# Altium integrated library ST Microcontroller 8-Bit.IntLib: 1326 symbols (part 5 of 31)
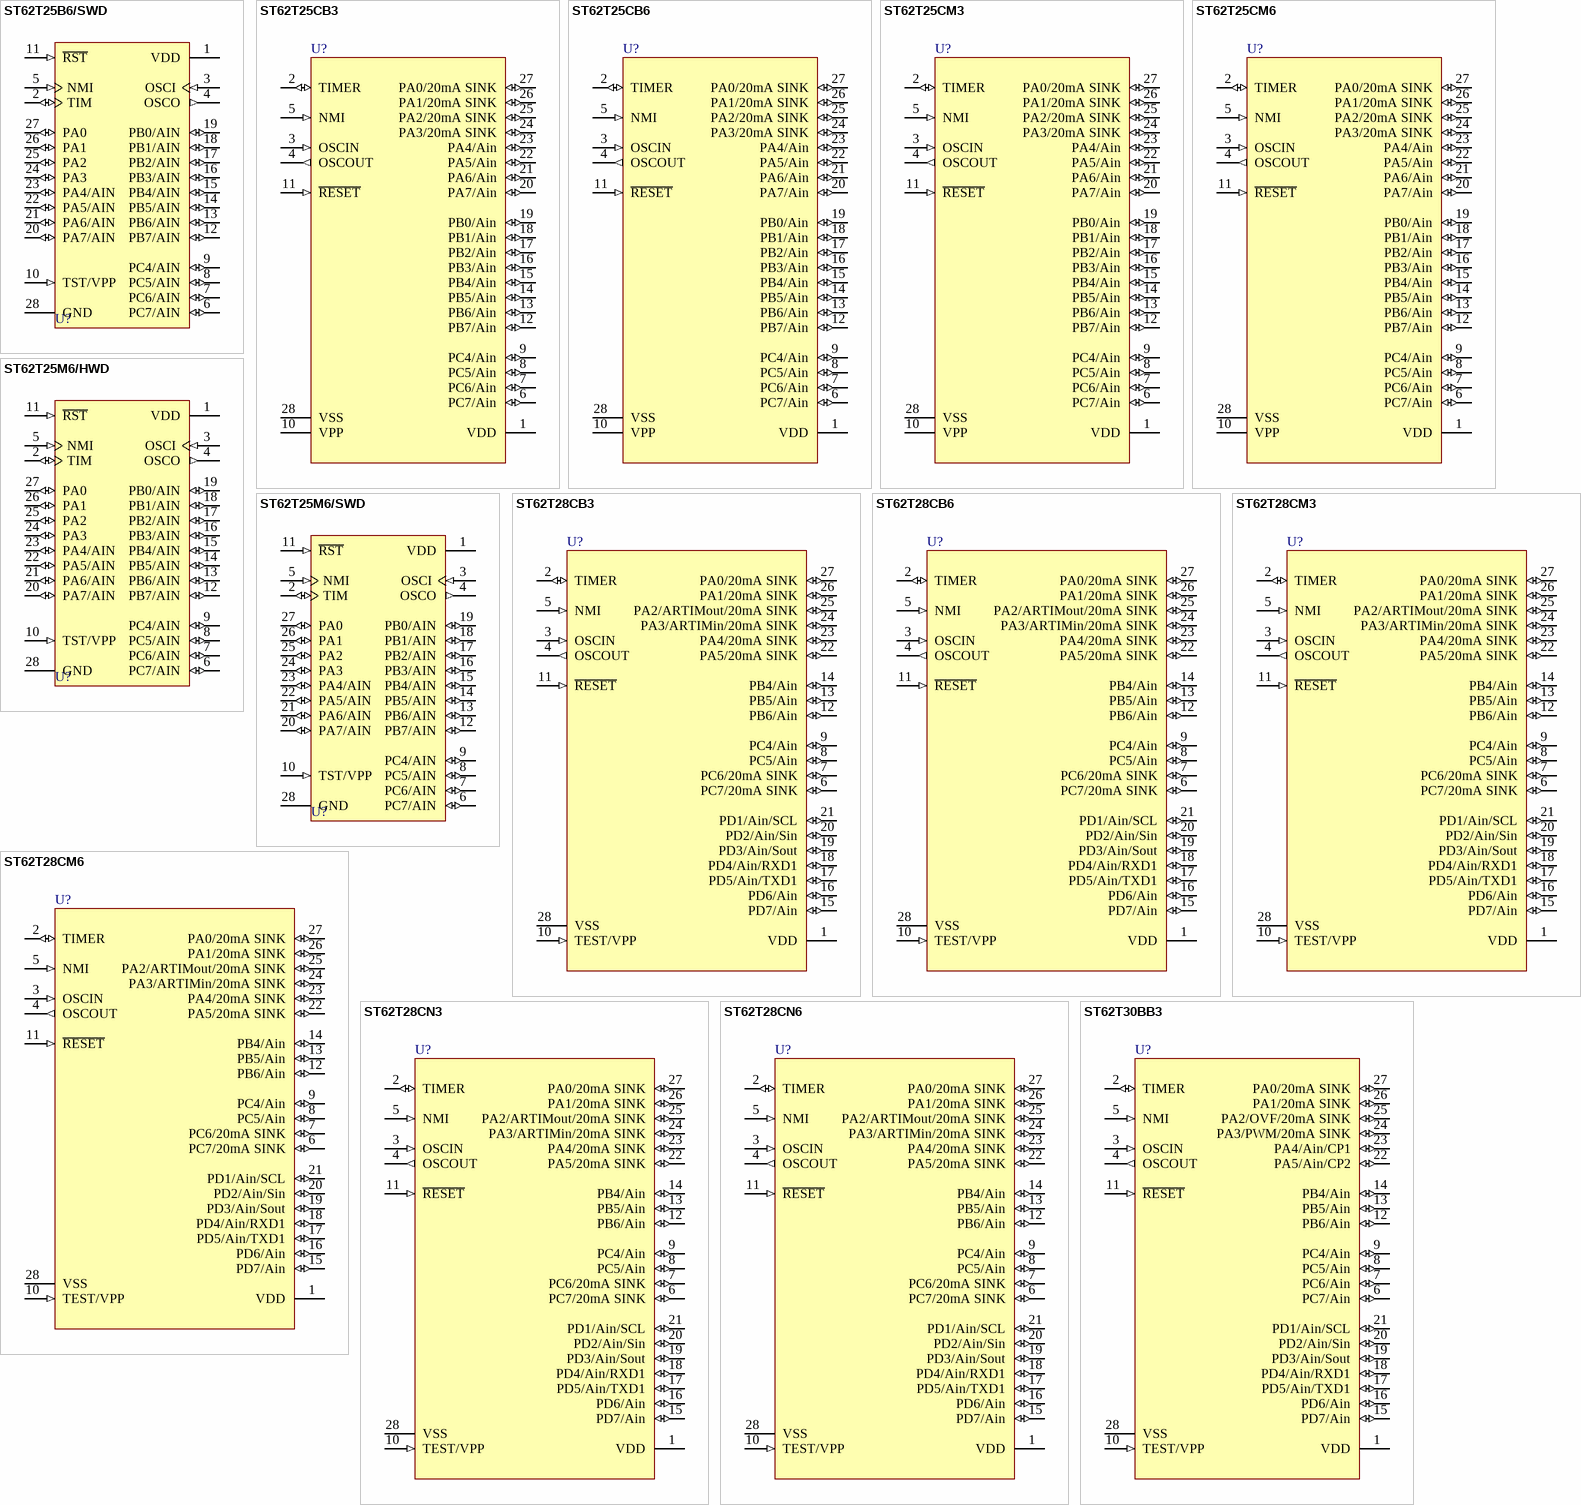
[diagram p171: symbols ST62T25B6/SWD to ST62T30BB3]

## ST62T25CB6
designator U?
8-Bit OTP MCU with A/D Converter, Two Timers, Oscillator Safeguard and Safe Reset, 28-Pin PDIP, Industrial; Published: 26-May-2004; DatasheetDocument: rev3.3, Oct-2003; PackageDocument: Oct-2003; PackageReference: DIP28; Publisher: Altium Limited; Code_JEDEC: MS-011-AB
footprint DIP28 (DIP; 28 Leads; Row Spacing 15.24 mm; Pitch 2.54 mm)
pins: 1 VDD (power), 2 TIMER (io), 3 OSCIN (in), 4 OSCOUT (out), 5 NMI (in), 6 PC7/Ain (io), 7 PC6/Ain (io), 8 PC5/Ain (io), 9 PC4/Ain (io), 10 VPP (power), 11 ~{RESET} (in), 12 PB7/Ain (io), 13 PB6/Ain (io), 14 PB5/Ain (io), 15 PB4/Ain (io), 16 PB3/Ain (io), 17 PB2/Ain (io), 18 PB1/Ain (io), 19 PB0/Ain (io), 20 PA7/Ain (io), 21 PA6/Ain (io), 22 PA5/Ain (io), 23 PA4/Ain (io), 24 PA3/20mA SINK (io), 25 PA2/20mA SINK (io), 26 PA1/20mA SINK (io), 27 PA0/20mA SINK (io), 28 VSS (power)

## ST62T25CM3
designator U?
8-Bit OTP MCU with A/D Converter, Two Timers, Oscillator Safeguard and Safe Reset, 28-Pin SOIC, Automotive; Published: 26-May-2004; DatasheetDocument: rev3.3, Oct-2003; PackageDocument: Jul-2001; PackageReference: SO28; Publisher: Altium Limited; Code_IPC: SO28W
footprint SO28 (Small Outline, Plastic; 28 Leads; Body Width 7.5 mm; Pitch 1.27 mm)
pins: 1 VDD (power), 2 TIMER (io), 3 OSCIN (in), 4 OSCOUT (out), 5 NMI (in), 6 PC7/Ain (io), 7 PC6/Ain (io), 8 PC5/Ain (io), 9 PC4/Ain (io), 10 VPP (power), 11 ~{RESET} (in), 12 PB7/Ain (io), 13 PB6/Ain (io), 14 PB5/Ain (io), 15 PB4/Ain (io), 16 PB3/Ain (io), 17 PB2/Ain (io), 18 PB1/Ain (io), 19 PB0/Ain (io), 20 PA7/Ain (io), 21 PA6/Ain (io), 22 PA5/Ain (io), 23 PA4/Ain (io), 24 PA3/20mA SINK (io), 25 PA2/20mA SINK (io), 26 PA1/20mA SINK (io), 27 PA0/20mA SINK (io), 28 VSS (power)

## ST62T25CM6
designator U?
8-Bit OTP MCU with A/D Converter, Two Timers, Oscillator Safeguard and Safe Reset, 28-Pin SOIC, Industrial; Published: 26-May-2004; DatasheetDocument: rev3.3, Oct-2003; PackageDocument: Jul-2001; PackageReference: SO28; Publisher: Altium Limited; Code_IPC: SO28W
footprint SO28 (Small Outline, Plastic; 28 Leads; Body Width 7.5 mm; Pitch 1.27 mm)
pins: 1 VDD (power), 2 TIMER (io), 3 OSCIN (in), 4 OSCOUT (out), 5 NMI (in), 6 PC7/Ain (io), 7 PC6/Ain (io), 8 PC5/Ain (io), 9 PC4/Ain (io), 10 VPP (power), 11 ~{RESET} (in), 12 PB7/Ain (io), 13 PB6/Ain (io), 14 PB5/Ain (io), 15 PB4/Ain (io), 16 PB3/Ain (io), 17 PB2/Ain (io), 18 PB1/Ain (io), 19 PB0/Ain (io), 20 PA7/Ain (io), 21 PA6/Ain (io), 22 PA5/Ain (io), 23 PA4/Ain (io), 24 PA3/20mA SINK (io), 25 PA2/20mA SINK (io), 26 PA1/20mA SINK (io), 27 PA0/20mA SINK (io), 28 VSS (power)

## ST62T25M6/HWD
designator U?
8-Bit OTP MCU with A/D Converter; Published: 24-Aug-2001; LatestRevisionDate: 17-Jul-2002; LatestRevisionNote: Re-released for DXP Platform.; DatasheetDocument: Oct-1996; PackageDocument: Jul-2001; PackageReference: SO28; Publisher: Altium Limited; Code_IPC: SO28W
footprint SO28 (Small Outline, Plastic; 28 Leads; Body Width 7.5 mm; Pitch 1.27 mm)
pins: 1 VDD (power), 2 TIM (io), 3 OSCI (in), 4 OSCO (out), 5 NMI (in), 6 PC7/AIN (io), 7 PC6/AIN (io), 8 PC5/AIN (io), 9 PC4/AIN (io), 10 TST/VPP (in), 11 ~{RST} (in), 12 PB7/AIN (io), 13 PB6/AIN (io), 14 PB5/AIN (io), 15 PB4/AIN (io), 16 PB3/AIN (io), 17 PB2/AIN (io), 18 PB1/AIN (io), 19 PB0/AIN (io), 20 PA7/AIN (io), 21 PA6/AIN (io), 22 PA5/AIN (io), 23 PA4/AIN (io), 24 PA3 (io), 25 PA2 (io), 26 PA1 (io), 27 PA0 (io), 28 GND (power)

## ST62T25M6/SWD
designator U?
8-Bit OTP MCU with A/D Converter; Published: 24-Aug-2001; LatestRevisionDate: 17-Jul-2002; LatestRevisionNote: Re-released for DXP Platform.; DatasheetDocument: Oct-1996; PackageDocument: Jul-2001; PackageReference: SO28; Publisher: Altium Limited; Code_IPC: SO28W
footprint SO28 (Small Outline, Plastic; 28 Leads; Body Width 7.5 mm; Pitch 1.27 mm)
pins: 1 VDD (power), 2 TIM (io), 3 OSCI (in), 4 OSCO (out), 5 NMI (in), 6 PC7/AIN (io), 7 PC6/AIN (io), 8 PC5/AIN (io), 9 PC4/AIN (io), 10 TST/VPP (in), 11 ~{RST} (in), 12 PB7/AIN (io), 13 PB6/AIN (io), 14 PB5/AIN (io), 15 PB4/AIN (io), 16 PB3/AIN (io), 17 PB2/AIN (io), 18 PB1/AIN (io), 19 PB0/AIN (io), 20 PA7/AIN (io), 21 PA6/AIN (io), 22 PA5/AIN (io), 23 PA4/AIN (io), 24 PA3 (io), 25 PA2 (io), 26 PA1 (io), 27 PA0 (io), 28 GND (power)

## ST62T28CB3
designator U?
8-Bit OTP MCU with A/D Converter, Auto-Reload Timer, UART, OSG, Safe Reset , 28-Pin PDIP, Automotive; Published: 26-May-2004; DatasheetDocument: rev2.9, Jul-2001; PackageDocument: Oct-2003; PackageReference: DIP28; Publisher: Altium Limited; Code_JEDEC: MS-011-AB
footprint DIP28 (DIP; 28 Leads; Row Spacing 15.24 mm; Pitch 2.54 mm)
pins: 1 VDD (power), 2 TIMER (io), 3 OSCIN (in), 4 OSCOUT (out), 5 NMI (in), 6 PC7/20mA SINK (io), 7 PC6/20mA SINK (io), 8 PC5/Ain (io), 9 PC4/Ain (io), 10 TEST/VPP (in), 11 ~{RESET} (in), 12 PB6/Ain (io), 13 PB5/Ain (io), 14 PB4/Ain (io), 15 PD7/Ain (io), 16 PD6/Ain (io), 17 PD5/Ain/TXD1 (io), 18 PD4/Ain/RXD1 (io), 19 PD3/Ain/Sout (io), 20 PD2/Ain/Sin (io), 21 PD1/Ain/SCL (io), 22 PA5/20mA SINK (io), 23 PA4/20mA SINK (io), 24 PA3/ARTIMin/20mA SINK (io), 25 PA2/ARTIMout/20mA SINK (io), 26 PA1/20mA SINK (io), 27 PA0/20mA SINK (io), 28 VSS (power)

## ST62T28CB6
designator U?
8-Bit OTP MCU with A/D Converter, Auto-Reload Timer, UART, OSG, Safe Reset , 28-Pin PDIP, Industrial; Published: 26-May-2004; DatasheetDocument: rev2.9, Jul-2001; PackageDocument: Oct-2003; PackageReference: DIP28; Publisher: Altium Limited; Code_JEDEC: MS-011-AB
footprint DIP28 (DIP; 28 Leads; Row Spacing 15.24 mm; Pitch 2.54 mm)
pins: 1 VDD (power), 2 TIMER (io), 3 OSCIN (in), 4 OSCOUT (out), 5 NMI (in), 6 PC7/20mA SINK (io), 7 PC6/20mA SINK (io), 8 PC5/Ain (io), 9 PC4/Ain (io), 10 TEST/VPP (in), 11 ~{RESET} (in), 12 PB6/Ain (io), 13 PB5/Ain (io), 14 PB4/Ain (io), 15 PD7/Ain (io), 16 PD6/Ain (io), 17 PD5/Ain/TXD1 (io), 18 PD4/Ain/RXD1 (io), 19 PD3/Ain/Sout (io), 20 PD2/Ain/Sin (io), 21 PD1/Ain/SCL (io), 22 PA5/20mA SINK (io), 23 PA4/20mA SINK (io), 24 PA3/ARTIMin/20mA SINK (io), 25 PA2/ARTIMout/20mA SINK (io), 26 PA1/20mA SINK (io), 27 PA0/20mA SINK (io), 28 VSS (power)

## ST62T28CM3
designator U?
8-Bit OTP MCU with A/D Converter, Auto-Reload Timer, UART, OSG, Safe Reset , 28-Pin SOIC, Automotive; Published: 26-May-2004; DatasheetDocument: rev2.9, Jul-2001; PackageDocument: Jul-2001; PackageReference: SO28; Publisher: Altium Limited; Code_IPC: SO28W
footprint SO28 (Small Outline, Plastic; 28 Leads; Body Width 7.5 mm; Pitch 1.27 mm)
pins: 1 VDD (power), 2 TIMER (io), 3 OSCIN (in), 4 OSCOUT (out), 5 NMI (in), 6 PC7/20mA SINK (io), 7 PC6/20mA SINK (io), 8 PC5/Ain (io), 9 PC4/Ain (io), 10 TEST/VPP (in), 11 ~{RESET} (in), 12 PB6/Ain (io), 13 PB5/Ain (io), 14 PB4/Ain (io), 15 PD7/Ain (io), 16 PD6/Ain (io), 17 PD5/Ain/TXD1 (io), 18 PD4/Ain/RXD1 (io), 19 PD3/Ain/Sout (io), 20 PD2/Ain/Sin (io), 21 PD1/Ain/SCL (io), 22 PA5/20mA SINK (io), 23 PA4/20mA SINK (io), 24 PA3/ARTIMin/20mA SINK (io), 25 PA2/ARTIMout/20mA SINK (io), 26 PA1/20mA SINK (io), 27 PA0/20mA SINK (io), 28 VSS (power)

## ST62T28CM6
designator U?
8-Bit OTP MCU with A/D Converter, Auto-Reload Timer, UART, OSG, Safe Reset , 28-Pin SOIC, Industrial; Published: 26-May-2004; DatasheetDocument: rev2.9, Jul-2001; PackageDocument: Jul-2001; PackageReference: SO28; Publisher: Altium Limited; Code_IPC: SO28W
footprint SO28 (Small Outline, Plastic; 28 Leads; Body Width 7.5 mm; Pitch 1.27 mm)
pins: 1 VDD (power), 2 TIMER (io), 3 OSCIN (in), 4 OSCOUT (out), 5 NMI (in), 6 PC7/20mA SINK (io), 7 PC6/20mA SINK (io), 8 PC5/Ain (io), 9 PC4/Ain (io), 10 TEST/VPP (in), 11 ~{RESET} (in), 12 PB6/Ain (io), 13 PB5/Ain (io), 14 PB4/Ain (io), 15 PD7/Ain (io), 16 PD6/Ain (io), 17 PD5/Ain/TXD1 (io), 18 PD4/Ain/RXD1 (io), 19 PD3/Ain/Sout (io), 20 PD2/Ain/Sin (io), 21 PD1/Ain/SCL (io), 22 PA5/20mA SINK (io), 23 PA4/20mA SINK (io), 24 PA3/ARTIMin/20mA SINK (io), 25 PA2/ARTIMout/20mA SINK (io), 26 PA1/20mA SINK (io), 27 PA0/20mA SINK (io), 28 VSS (power)

## ST62T28CN3
designator U?
8-Bit OTP MCU with A/D Converter, Auto-Reload Timer, UART, OSG, Safe Reset , 28-Pin SSOP, Automotive; Published: 26-May-2004; DatasheetDocument: rev2.9, Jul-2001; PackageDocument: Jul-2001; PackageReference: SSOP28W; Publisher: Altium Limited
footprint SSOP28W (SSOP, Plastic; 28 Leads; Body Width 5.3 mm; Pitch 0.65 mm)
pins: 1 VDD (power), 2 TIMER (io), 3 OSCIN (in), 4 OSCOUT (out), 5 NMI (in), 6 PC7/20mA SINK (io), 7 PC6/20mA SINK (io), 8 PC5/Ain (io), 9 PC4/Ain (io), 10 TEST/VPP (in), 11 ~{RESET} (in), 12 PB6/Ain (io), 13 PB5/Ain (io), 14 PB4/Ain (io), 15 PD7/Ain (io), 16 PD6/Ain (io), 17 PD5/Ain/TXD1 (io), 18 PD4/Ain/RXD1 (io), 19 PD3/Ain/Sout (io), 20 PD2/Ain/Sin (io), 21 PD1/Ain/SCL (io), 22 PA5/20mA SINK (io), 23 PA4/20mA SINK (io), 24 PA3/ARTIMin/20mA SINK (io), 25 PA2/ARTIMout/20mA SINK (io), 26 PA1/20mA SINK (io), 27 PA0/20mA SINK (io), 28 VSS (power)

## ST62T28CN6
designator U?
8-Bit OTP MCU with A/D Converter, Auto-Reload Timer, UART, OSG, Safe Reset , 28-Pin SSOP, Industrial; Published: 26-May-2004; DatasheetDocument: rev2.9, Jul-2001; PackageDocument: Jul-2001; PackageReference: SSOP28W; Publisher: Altium Limited
footprint SSOP28W (SSOP, Plastic; 28 Leads; Body Width 5.3 mm; Pitch 0.65 mm)
pins: 1 VDD (power), 2 TIMER (io), 3 OSCIN (in), 4 OSCOUT (out), 5 NMI (in), 6 PC7/20mA SINK (io), 7 PC6/20mA SINK (io), 8 PC5/Ain (io), 9 PC4/Ain (io), 10 TEST/VPP (in), 11 ~{RESET} (in), 12 PB6/Ain (io), 13 PB5/Ain (io), 14 PB4/Ain (io), 15 PD7/Ain (io), 16 PD6/Ain (io), 17 PD5/Ain/TXD1 (io), 18 PD4/Ain/RXD1 (io), 19 PD3/Ain/Sout (io), 20 PD2/Ain/Sin (io), 21 PD1/Ain/SCL (io), 22 PA5/20mA SINK (io), 23 PA4/20mA SINK (io), 24 PA3/ARTIMin/20mA SINK (io), 25 PA2/ARTIMout/20mA SINK (io), 26 PA1/20mA SINK (io), 27 PA0/20mA SINK (io), 28 VSS (power)

## ST62T30BB3
designator U?
8-Bit OTP MCU with A/D Converter, 16-Bit Auto-Reload Timer, EEPROM, SPI and UART, 28-Pin PDIP, Automotive; Published: 26-May-2004; DatasheetDocument: rev2.7, Oct-2003; PackageDocument: Oct-2003; PackageReference: DIP28; Publisher: Altium Limited; Code_JEDEC: MS-011-AB
footprint DIP28 (DIP; 28 Leads; Row Spacing 15.24 mm; Pitch 2.54 mm)
pins: 1 VDD (power), 2 TIMER (io), 3 OSCIN (in), 4 OSCOUT (out), 5 NMI (in), 6 PC7/Ain (io), 7 PC6/Ain (io), 8 PC5/Ain (io), 9 PC4/Ain (io), 10 TEST/VPP (in), 11 ~{RESET} (in), 12 PB6/Ain (io), 13 PB5/Ain (io), 14 PB4/Ain (io), 15 PD7/Ain (io), 16 PD6/Ain (io), 17 PD5/Ain/TXD1 (io), 18 PD4/Ain/RXD1 (io), 19 PD3/Ain/Sout (io), 20 PD2/Ain/Sin (io), 21 PD1/Ain/SCL (io), 22 PA5/Ain/CP2 (io), 23 PA4/Ain/CP1 (io), 24 PA3/PWM/20mA SINK (io), 25 PA2/OVF/20mA SINK (io), 26 PA1/20mA SINK (io), 27 PA0/20mA SINK (io), 28 VSS (power)

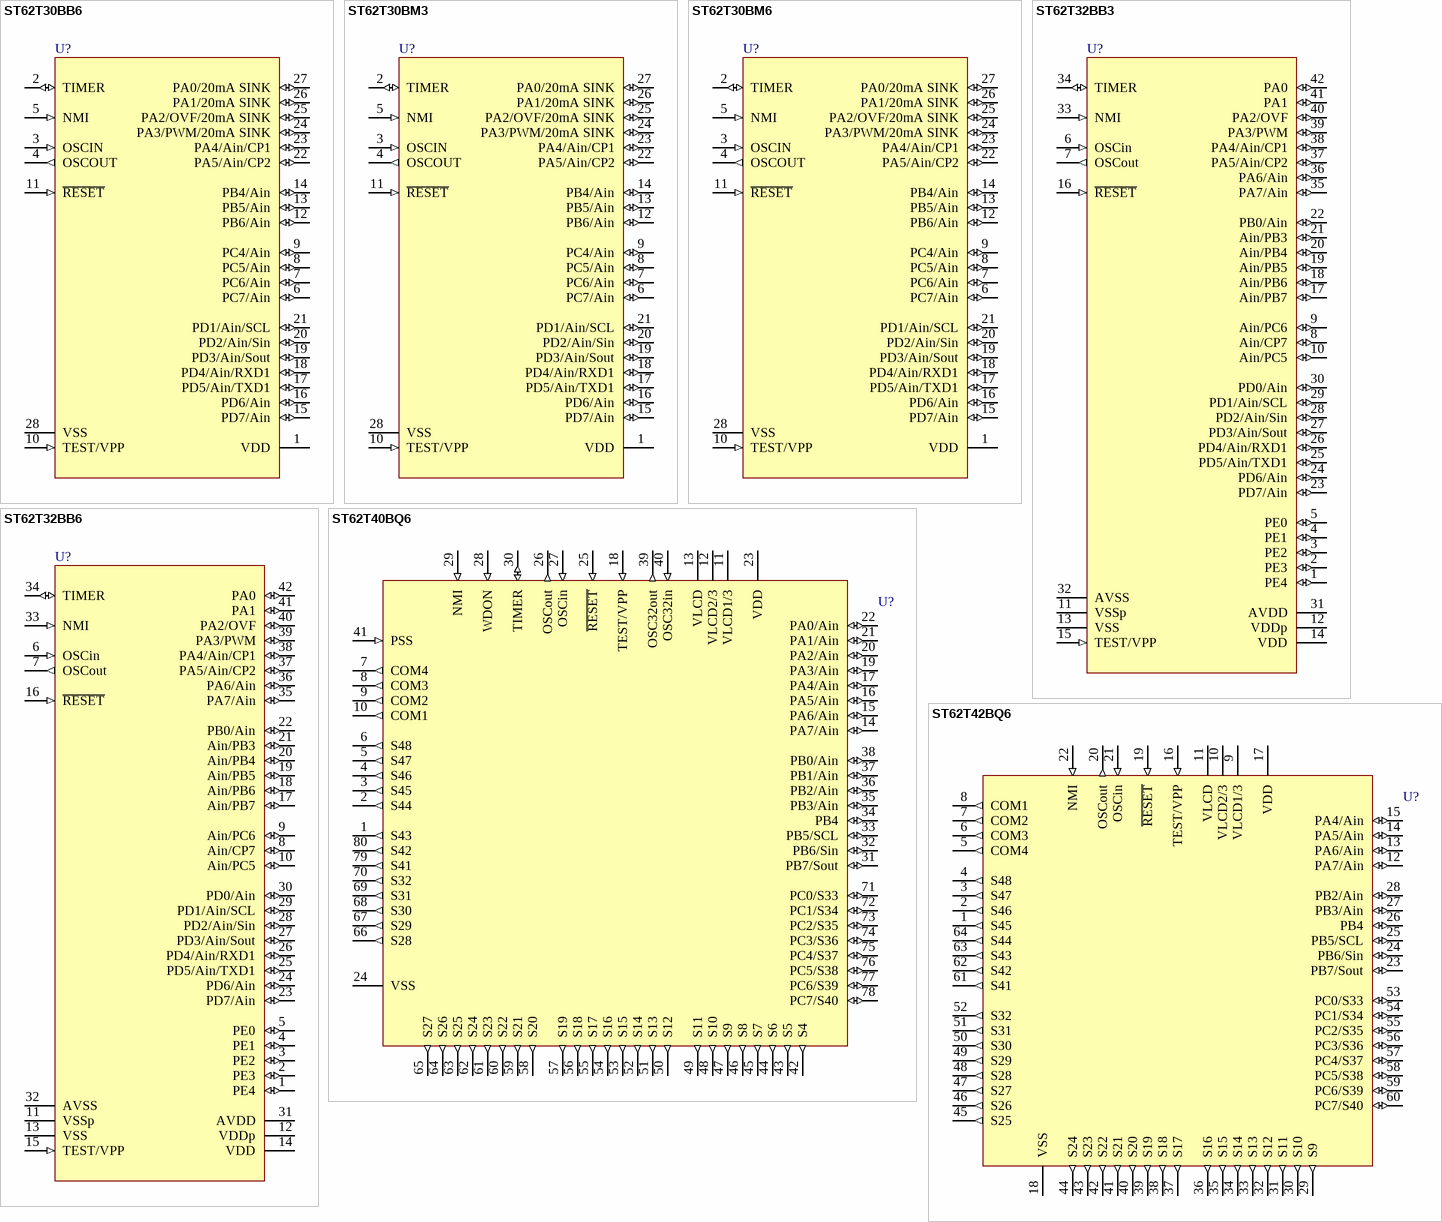
[diagram p17: symbols ST62T30BB6 to ST62T42BQ6]

## ST62T30BB6
designator U?
8-Bit OTP MCU with A/D Converter, 16-Bit Auto-Reload Timer, EEPROM, SPI and UART, 28-Pin PDIP, Industrial; Published: 26-May-2004; DatasheetDocument: rev2.7, Oct-2003; PackageDocument: Oct-2003; PackageReference: DIP28; Publisher: Altium Limited; Code_JEDEC: MS-011-AB
footprint DIP28 (DIP; 28 Leads; Row Spacing 15.24 mm; Pitch 2.54 mm)
pins: 1 VDD (power), 2 TIMER (io), 3 OSCIN (in), 4 OSCOUT (out), 5 NMI (in), 6 PC7/Ain (io), 7 PC6/Ain (io), 8 PC5/Ain (io), 9 PC4/Ain (io), 10 TEST/VPP (in), 11 ~{RESET} (in), 12 PB6/Ain (io), 13 PB5/Ain (io), 14 PB4/Ain (io), 15 PD7/Ain (io), 16 PD6/Ain (io), 17 PD5/Ain/TXD1 (io), 18 PD4/Ain/RXD1 (io), 19 PD3/Ain/Sout (io), 20 PD2/Ain/Sin (io), 21 PD1/Ain/SCL (io), 22 PA5/Ain/CP2 (io), 23 PA4/Ain/CP1 (io), 24 PA3/PWM/20mA SINK (io), 25 PA2/OVF/20mA SINK (io), 26 PA1/20mA SINK (io), 27 PA0/20mA SINK (io), 28 VSS (power)

## ST62T30BM3
designator U?
8-Bit OTP MCU with A/D Converter, 16-Bit Auto-Reload Timer, EEPROM, SPI and UART, 28-Pin SOIC, Automotive; Published: 26-May-2004; DatasheetDocument: rev2.7, Oct-2003; PackageDocument: Jul-2001; PackageReference: SO28; Publisher: Altium Limited; Code_IPC: SO28W
footprint SO28 (Small Outline, Plastic; 28 Leads; Body Width 7.5 mm; Pitch 1.27 mm)
pins: 1 VDD (power), 2 TIMER (io), 3 OSCIN (in), 4 OSCOUT (out), 5 NMI (in), 6 PC7/Ain (io), 7 PC6/Ain (io), 8 PC5/Ain (io), 9 PC4/Ain (io), 10 TEST/VPP (in), 11 ~{RESET} (in), 12 PB6/Ain (io), 13 PB5/Ain (io), 14 PB4/Ain (io), 15 PD7/Ain (io), 16 PD6/Ain (io), 17 PD5/Ain/TXD1 (io), 18 PD4/Ain/RXD1 (io), 19 PD3/Ain/Sout (io), 20 PD2/Ain/Sin (io), 21 PD1/Ain/SCL (io), 22 PA5/Ain/CP2 (io), 23 PA4/Ain/CP1 (io), 24 PA3/PWM/20mA SINK (io), 25 PA2/OVF/20mA SINK (io), 26 PA1/20mA SINK (io), 27 PA0/20mA SINK (io), 28 VSS (power)

## ST62T30BM6
designator U?
8-Bit OTP MCU with A/D Converter, 16-Bit Auto-Reload Timer, EEPROM, SPI and UART, 28-Pin SOIC, Industrial; Published: 26-May-2004; DatasheetDocument: rev2.7, Oct-2003; PackageDocument: Jul-2001; PackageReference: SO28; Publisher: Altium Limited; Code_IPC: SO28W
footprint SO28 (Small Outline, Plastic; 28 Leads; Body Width 7.5 mm; Pitch 1.27 mm)
pins: 1 VDD (power), 2 TIMER (io), 3 OSCIN (in), 4 OSCOUT (out), 5 NMI (in), 6 PC7/Ain (io), 7 PC6/Ain (io), 8 PC5/Ain (io), 9 PC4/Ain (io), 10 TEST/VPP (in), 11 ~{RESET} (in), 12 PB6/Ain (io), 13 PB5/Ain (io), 14 PB4/Ain (io), 15 PD7/Ain (io), 16 PD6/Ain (io), 17 PD5/Ain/TXD1 (io), 18 PD4/Ain/RXD1 (io), 19 PD3/Ain/Sout (io), 20 PD2/Ain/Sin (io), 21 PD1/Ain/SCL (io), 22 PA5/Ain/CP2 (io), 23 PA4/Ain/CP1 (io), 24 PA3/PWM/20mA SINK (io), 25 PA2/OVF/20mA SINK (io), 26 PA1/20mA SINK (io), 27 PA0/20mA SINK (io), 28 VSS (power)

## ST62T32BB3
designator U?
8-Bit OTP MCU with A/D Converter, 16-Bit Auto-Reload Timer, EEPROM, SPI and UART, 42-Pin SDIP, Automotive; Published: 26-May-2004; DatasheetDocument: rev2.8, Oct-2003; PackageDocument: Oct-2003; PackageReference: PSDIP42; Publisher: Altium Limited
footprint PSDIP42 (DIP, Plastic Shrink; 42 Leads; Row Spacing 15.24 mm; Pitch 1.78 mm)
pins: 1 PE4 (io), 2 PE3 (io), 3 PE2 (io), 4 PE1 (io), 5 PE0 (io), 6 OSCin (in), 7 OSCout (out), 8 Ain/CP7 (io), 9 Ain/PC6 (io), 10 Ain/PC5 (io), 11 VSSp (power), 12 VDDp (power), 13 VSS (power), 14 VDD (power), 15 TEST/VPP (in), 16 ~{RESET} (in), 17 Ain/PB7 (io), 18 Ain/PB6 (io), 19 Ain/PB5 (io), 20 Ain/PB4 (io), 21 Ain/PB3 (io), 22 PB0/Ain (io), 23 PD7/Ain (io), 24 PD6/Ain (io), 25 PD5/Ain/TXD1 (io), 26 PD4/Ain/RXD1 (io), 27 PD3/Ain/Sout (io), 28 PD2/Ain/Sin (io), 29 PD1/Ain/SCL (io), 30 PD0/Ain (io), 31 AVDD (power), 32 AVSS (power), 33 NMI (in), 34 TIMER (io), 35 PA7/Ain (io), 36 PA6/Ain (io), 37 PA5/Ain/CP2 (io), 38 PA4/Ain/CP1 (io), 39 PA3/PWM (io), 40 PA2/OVF (io), 41 PA1 (io), 42 PA0 (io)

## ST62T32BB6
designator U?
8-Bit OTP MCU with A/D Converter, 16-Bit Auto-Reload Timer, EEPROM, SPI and UART, 42-Pin SDIP, Industrial; Published: 26-May-2004; DatasheetDocument: rev2.8, Oct-2003; PackageDocument: Oct-2003; PackageReference: PSDIP42; Publisher: Altium Limited
footprint PSDIP42 (DIP, Plastic Shrink; 42 Leads; Row Spacing 15.24 mm; Pitch 1.78 mm)
pins: 1 PE4 (io), 2 PE3 (io), 3 PE2 (io), 4 PE1 (io), 5 PE0 (io), 6 OSCin (in), 7 OSCout (out), 8 Ain/CP7 (io), 9 Ain/PC6 (io), 10 Ain/PC5 (io), 11 VSSp (power), 12 VDDp (power), 13 VSS (power), 14 VDD (power), 15 TEST/VPP (in), 16 ~{RESET} (in), 17 Ain/PB7 (io), 18 Ain/PB6 (io), 19 Ain/PB5 (io), 20 Ain/PB4 (io), 21 Ain/PB3 (io), 22 PB0/Ain (io), 23 PD7/Ain (io), 24 PD6/Ain (io), 25 PD5/Ain/TXD1 (io), 26 PD4/Ain/RXD1 (io), 27 PD3/Ain/Sout (io), 28 PD2/Ain/Sin (io), 29 PD1/Ain/SCL (io), 30 PD0/Ain (io), 31 AVDD (power), 32 AVSS (power), 33 NMI (in), 34 TIMER (io), 35 PA7/Ain (io), 36 PA6/Ain (io), 37 PA5/Ain/CP2 (io), 38 PA4/Ain/CP1 (io), 39 PA3/PWM (io), 40 PA2/OVF (io), 41 PA1 (io), 42 PA0 (io)

## ST62T40BQ6
designator U?
8-Bit OTP MCU with LCD Driver, EEPROM and A/D Converter, 80-Pin PQFP, Industrial; Note: Pins 31 to 34 can also sink 20mA for direct LED or TRIAC drive.; Published: 26-May-2004; DatasheetDocument: rev2.7, Jul-2001; PackageDocument: Jul-2001; PackageReference: PQFP80; Publisher: Altium Limited; Code_IPC: QFP-14X20-80
footprint PQFP80 (QFP, Plastic; 80 Leads; Body 14 x 20 mm; Pitch 0.8 mm)
pins: 1 S43 (out), 2 S44 (out), 3 S45 (out), 4 S46 (out), 5 S47 (out), 6 S48 (out), 7 COM4 (out), 8 COM3 (out), 9 COM2 (out), 10 COM1 (out), 11 VLCD1/3 (power), 12 VLCD2/3 (power), 13 VLCD (power), 14 PA7/Ain (io), 15 PA6/Ain (io), 16 PA5/Ain (io), 17 PA4/Ain (io), 18 TEST/VPP (in), 19 PA3/Ain (io), 20 PA2/Ain (io), 21 PA1/Ain (io), 22 PA0/Ain (io), 23 VDD (power), 24 VSS (power), 25 ~{RESET} (in), 26 OSCout (out), 27 OSCin (in), 28 WDON (in), 29 NMI (in), 30 TIMER (io), 31 PB7/Sout (io), 32 PB6/Sin (io), 33 PB5/SCL (io), 34 PB4 (io), 35 PB3/Ain (io), 36 PB2/Ain (io), 37 PB1/Ain (io), 38 PB0/Ain (io), 39 OSC32out (out), 40 OSC32in (in), 41 PSS (in), 42 S4 (out), 43 S5 (out), 44 S6 (out), 45 S7 (out), 46 S8 (out), 47 S9 (out), 48 S10 (out), 49 S11 (out), 50 S12 (out), 51 S13 (out), 52 S14 (out), 53 S15 (out), 54 S16 (out), 55 S17 (out), 56 S18 (out), 57 S19 (out), 58 S20 (out), 59 S21 (out), 60 S22 (out), 61 S23 (out), 62 S24 (out), 63 S25 (out), 64 S26 (out), 65 S27 (out), 66 S28 (out), 67 S29 (out), 68 S30 (out), 69 S31 (out), 70 S32 (out), 71 PC0/S33 (io), 72 PC1/S34 (io), 73 PC2/S35 (io), 74 PC3/S36 (io), 75 PC4/S37 (io), 76 PC5/S38 (io), 77 PC6/S39 (io), 78 PC7/S40 (io), 79 S41 (out), 80 S42 (out)

## ST62T42BQ6
designator U?
8-Bit OTP MCU with LCD Driver, EEPROM and A/D Converter, 64-Pin PQFP, Industrial; Note: Pins 23 to 26 can also sink 20mA for direct LED or TRIAC drive.; Published: 26-May-2004; DatasheetDocument: rev2.7, Jul-2001; PackageDocument: Jul-2001; PackageReference: PQFP64; Publisher: Altium Limited
footprint PQFP64 (QFP, Plastic; 64 Leads; Body 14 x 14 mm; Pitch 0.8 mm)
pins: 1 S45 (out), 2 S46 (out), 3 S47 (out), 4 S48 (out), 5 COM4 (out), 6 COM3 (out), 7 COM2 (out), 8 COM1 (out), 9 VLCD1/3 (power), 10 VLCD2/3 (power), 11 VLCD (power), 12 PA7/Ain (io), 13 PA6/Ain (io), 14 PA5/Ain (io), 15 PA4/Ain (io), 16 TEST/VPP (in), 17 VDD (power), 18 VSS (power), 19 ~{RESET} (in), 20 OSCout (out), 21 OSCin (in), 22 NMI (in), 23 PB7/Sout (io), 24 PB6/Sin (io), 25 PB5/SCL (io), 26 PB4 (io), 27 PB3/Ain (io), 28 PB2/Ain (io), 29 S9 (out), 30 S10 (out), 31 S11 (out), 32 S12 (out), 33 S13 (out), 34 S14 (out), 35 S15 (out), 36 S16 (out), 37 S17 (out), 38 S18 (out), 39 S19 (out), 40 S20 (out), 41 S21 (out), 42 S22 (out), 43 S23 (out), 44 S24 (out), 45 S25 (out), 46 S26 (out), 47 S27 (out), 48 S28 (out), 49 S29 (out), 50 S30 (out), 51 S31 (out), 52 S32 (out), 53 PC0/S33 (io), 54 PC1/S34 (io), 55 PC2/S35 (io), 56 PC3/S36 (io), 57 PC4/S37 (io), 58 PC5/S38 (io), 59 PC6/S39 (io), 60 PC7/S40 (io), 61 S41 (out), 62 S42 (out), 63 S43 (out), 64 S44 (out)

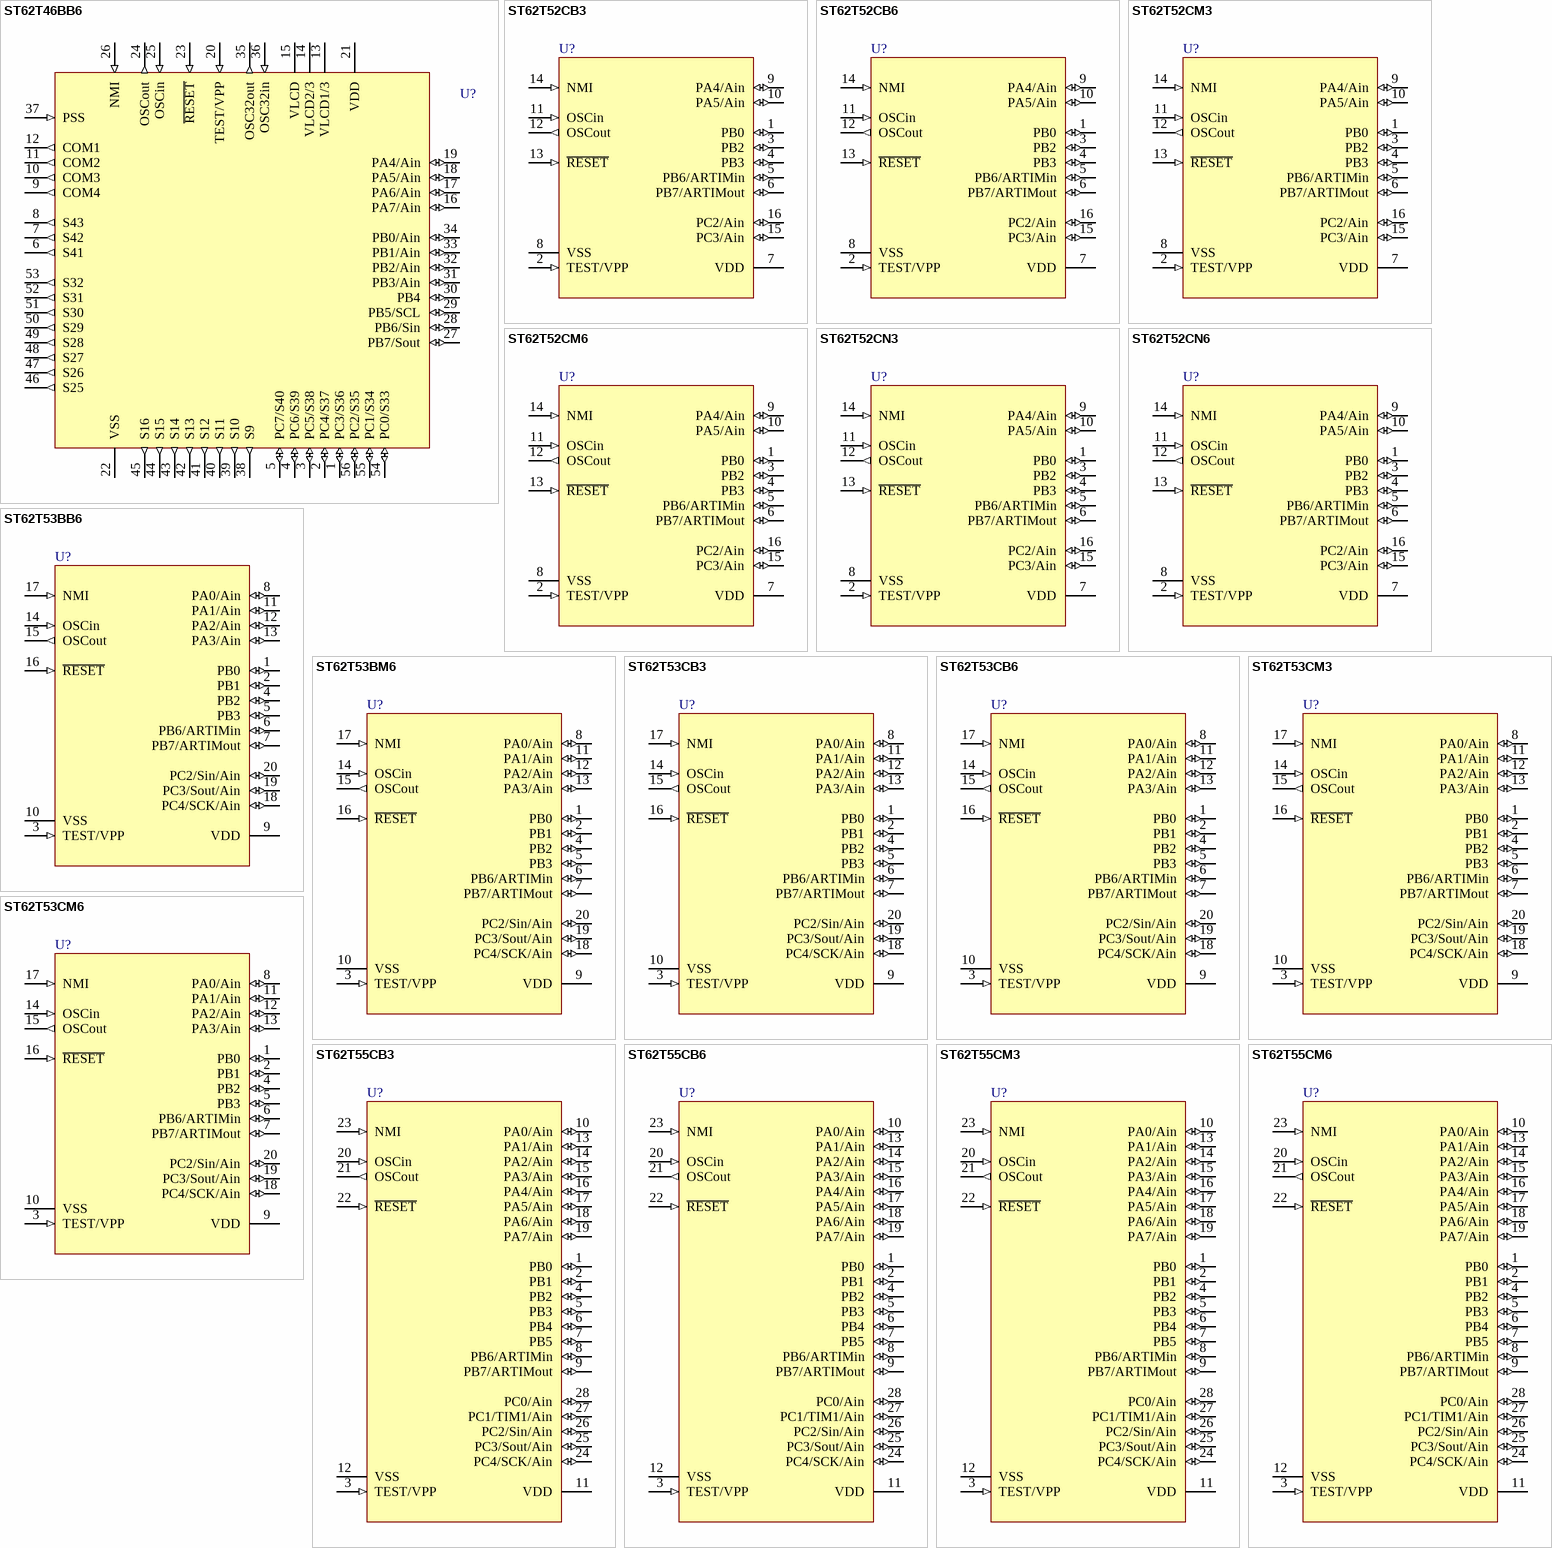
[diagram p18: symbols ST62T46BB6 to ST62T55CM6]

## ST62T46BB6
designator U?
8-Bit OTP MCU with LCD Driver, EEPROM and A/D Converter, 56-Pin PDIP, Industrial; Note: Pins 27 to 30 can also sink 20mA for direct LED or TRIAC drive.; Published: 26-May-2004; DatasheetDocument: rev2.6, Jul-2001; PackageDocument: Jan-2002; PackageReference: PSDIP56; Publisher: Altium Limited
footprint PSDIP56 (DIP, Plastic Shrink; 56 Leads; Row Spacing 15.24 mm; Pitch 1.78 mm)
pins: 1 PC3/S36 (io), 2 PC4/S37 (io), 3 PC5/S38 (io), 4 PC6/S39 (io), 5 PC7/S40 (io), 6 S41 (out), 7 S42 (out), 8 S43 (out), 9 COM4 (out), 10 COM3 (out), 11 COM2 (out), 12 COM1 (out), 13 VLCD1/3 (power), 14 VLCD2/3 (power), 15 VLCD (power), 16 PA7/Ain (io), 17 PA6/Ain (io), 18 PA5/Ain (io), 19 PA4/Ain (io), 20 TEST/VPP (in), 21 VDD (power), 22 VSS (power), 23 ~{RESET} (in), 24 OSCout (out), 25 OSCin (in), 26 NMI (in), 27 PB7/Sout (io), 28 PB6/Sin (io), 29 PB5/SCL (io), 30 PB4 (io), 31 PB3/Ain (io), 32 PB2/Ain (io), 33 PB1/Ain (io), 34 PB0/Ain (io), 35 OSC32out (out), 36 OSC32in (in), 37 PSS (in), 38 S9 (out), 39 S10 (out), 40 S11 (out), 41 S12 (out), 42 S13 (out), 43 S14 (out), 44 S15 (out), 45 S16 (out), 46 S25 (out), 47 S26 (out), 48 S27 (out), 49 S28 (out), 50 S29 (out), 51 S30 (out), 52 S31 (out), 53 S32 (out), 54 PC0/S33 (io), 55 PC1/S34 (io), 56 PC2/S35 (io)

## ST62T52CB3
designator U?
8-Bit OTP MCU with A/D Converter, Safe Reset, Auto-Reload Timer and EEPROM, 16-Pin PDIP, Automotive; Note: Pins 3 to 5 can also sink 20mA for direct LED or TRIAC drive.; Published: 26-May-2004; DatasheetDocument: rev3.0, Feb-2002; PackageDocument: Dec-2003; PackageReference: PDIP16; Publisher: Altium Limited
footprint PDIP16 (DIP; 16 Leads; Row Spacing 7.62 mm; Pitch 2.54 mm)
pins: 1 PB0 (io), 2 TEST/VPP (in), 3 PB2 (io), 4 PB3 (io), 5 PB6/ARTIMin (io), 6 PB7/ARTIMout (io), 7 VDD (power), 8 VSS (power), 9 PA4/Ain (io), 10 PA5/Ain (io), 11 OSCin (in), 12 OSCout (out), 13 ~{RESET} (in), 14 NMI (in), 15 PC3/Ain (io), 16 PC2/Ain (io)

## ST62T52CB6
designator U?
8-Bit OTP MCU with A/D Converter, Safe Reset, Auto-Reload Timer and EEPROM, 16-Pin PDIP, Industrial; Note: Pins 3 to 5 can also sink 20mA for direct LED or TRIAC drive.; Published: 26-May-2004; DatasheetDocument: rev3.0, Feb-2002; PackageDocument: Dec-2003; PackageReference: PDIP16; Publisher: Altium Limited
footprint PDIP16 (DIP; 16 Leads; Row Spacing 7.62 mm; Pitch 2.54 mm)
pins: 1 PB0 (io), 2 TEST/VPP (in), 3 PB2 (io), 4 PB3 (io), 5 PB6/ARTIMin (io), 6 PB7/ARTIMout (io), 7 VDD (power), 8 VSS (power), 9 PA4/Ain (io), 10 PA5/Ain (io), 11 OSCin (in), 12 OSCout (out), 13 ~{RESET} (in), 14 NMI (in), 15 PC3/Ain (io), 16 PC2/Ain (io)

## ST62T52CM3
designator U?
8-Bit OTP MCU with A/D Converter, Safe Reset, Auto-Reload Timer and EEPROM, 16-Pin SOIC, Automotive; Note: Pins 3 to 5 can also sink 20mA for direct LED or TRIAC drive.; Published: 26-May-2004; DatasheetDocument: rev3.0, Feb-2002; PackageDocument: Apr-1998; PackageReference: SO16W; Publisher: Altium Limited; Code_JEDEC: MS-013-AA; Code_IPC: SO16W
footprint SO16W (Small Outline; 16 Leads; Body Width 7.5 mm; Pitch 1.27 mm)
pins: 1 PB0 (io), 2 TEST/VPP (in), 3 PB2 (io), 4 PB3 (io), 5 PB6/ARTIMin (io), 6 PB7/ARTIMout (io), 7 VDD (power), 8 VSS (power), 9 PA4/Ain (io), 10 PA5/Ain (io), 11 OSCin (in), 12 OSCout (out), 13 ~{RESET} (in), 14 NMI (in), 15 PC3/Ain (io), 16 PC2/Ain (io)

## ST62T52CM6
designator U?
8-Bit OTP MCU with A/D Converter, Safe Reset, Auto-Reload Timer and EEPROM, 16-Pin SOIC, Industrial; Note: Pins 3 to 5 can also sink 20mA for direct LED or TRIAC drive.; Published: 26-May-2004; DatasheetDocument: rev3.0, Feb-2002; PackageDocument: Apr-1998; PackageReference: SO16W; Publisher: Altium Limited; Code_JEDEC: MS-013-AA; Code_IPC: SO16W
footprint SO16W (Small Outline; 16 Leads; Body Width 7.5 mm; Pitch 1.27 mm)
pins: 1 PB0 (io), 2 TEST/VPP (in), 3 PB2 (io), 4 PB3 (io), 5 PB6/ARTIMin (io), 6 PB7/ARTIMout (io), 7 VDD (power), 8 VSS (power), 9 PA4/Ain (io), 10 PA5/Ain (io), 11 OSCin (in), 12 OSCout (out), 13 ~{RESET} (in), 14 NMI (in), 15 PC3/Ain (io), 16 PC2/Ain (io)

## ST62T52CN3
designator U?
8-Bit OTP MCU with A/D Converter, Safe Reset, Auto-Reload Timer and EEPROM, 16-Pin SSOP, Automotive; Note: Pins 3 to 5 can also sink 20mA for direct LED or TRIAC drive.; Published: 26-May-2004; DatasheetDocument: rev3.0, Feb-2002; PackageDocument: Oct-2003; PackageReference: SSOP16; Publisher: Altium Limited
footprint SSOP16 (SSOP, Plastic; 16 Leads; Body Width 5.3 mm; Pitch 0.65 mm)
pins: 1 PB0 (io), 2 TEST/VPP (in), 3 PB2 (io), 4 PB3 (io), 5 PB6/ARTIMin (io), 6 PB7/ARTIMout (io), 7 VDD (power), 8 VSS (power), 9 PA4/Ain (io), 10 PA5/Ain (io), 11 OSCin (in), 12 OSCout (out), 13 ~{RESET} (in), 14 NMI (in), 15 PC3/Ain (io), 16 PC2/Ain (io)

## ST62T52CN6
designator U?
8-Bit OTP MCU with A/D Converter, Safe Reset, Auto-Reload Timer and EEPROM, 16-Pin SSOP, Industrial; Note: Pins 3 to 5 can also sink 20mA for direct LED or TRIAC drive.; Published: 26-May-2004; DatasheetDocument: rev3.0, Feb-2002; PackageDocument: Oct-2003; PackageReference: SSOP16; Publisher: Altium Limited
footprint SSOP16 (SSOP, Plastic; 16 Leads; Body Width 5.3 mm; Pitch 0.65 mm)
pins: 1 PB0 (io), 2 TEST/VPP (in), 3 PB2 (io), 4 PB3 (io), 5 PB6/ARTIMin (io), 6 PB7/ARTIMout (io), 7 VDD (power), 8 VSS (power), 9 PA4/Ain (io), 10 PA5/Ain (io), 11 OSCin (in), 12 OSCout (out), 13 ~{RESET} (in), 14 NMI (in), 15 PC3/Ain (io), 16 PC2/Ain (io)

## ST62T53BB6
designator U?
8-Bit OTP MCU with A/D Converter, Auto-Reload Timer, EEPROM and SPI; Published: 24-Aug-2001; LatestRevisionDate: 19-Mar-2004; LatestRevisionNote: PCB Footprint - Drill diameter increased by 0.1mm; DatasheetDocument: Apr-1998; PackageDocument: Jun-1998; PackageReference: DIP20; Publisher: Altium Limited; Code_JEDEC: MS-015-AE
footprint DIP20 (DIP; 20 Leads; Row Spacing 7.62 mm; Pitch 2.54 mm)
pins: 1 PB0 (io), 2 PB1 (io), 3 TEST/VPP (in), 4 PB2 (io), 5 PB3 (io), 6 PB6/ARTIMin (io), 7 PB7/ARTIMout (io), 8 PA0/Ain (io), 9 VDD (power), 10 VSS (power), 11 PA1/Ain (io), 12 PA2/Ain (io), 13 PA3/Ain (io), 14 OSCin (in), 15 OSCout (out), 16 ~{RESET} (in), 17 NMI (in), 18 PC4/SCK/Ain (io), 19 PC3/Sout/Ain (io), 20 PC2/Sin/Ain (io)

## ST62T53BM6
designator U?
8-Bit OTP MCU with A/D Converter, Auto-Reload Timer, EEPROM and SPI; Published: 24-Aug-2001; LatestRevisionDate: 17-Jul-2002; LatestRevisionNote: Re-released for DXP Platform.; DatasheetDocument: Apr-1998; PackageDocument: Jul-2001; PackageReference: SO20; Publisher: Altium Limited; Code_JEDEC: MS-013-AC; Code_IPC: SO20W
footprint SO20 (Small Outline, Plastic; 20 Leads; Body Width 7.5 mm; Pitch 1.27 mm)
pins: 1 PB0 (io), 2 PB1 (io), 3 TEST/VPP (in), 4 PB2 (io), 5 PB3 (io), 6 PB6/ARTIMin (io), 7 PB7/ARTIMout (io), 8 PA0/Ain (io), 9 VDD (power), 10 VSS (power), 11 PA1/Ain (io), 12 PA2/Ain (io), 13 PA3/Ain (io), 14 OSCin (in), 15 OSCout (out), 16 ~{RESET} (in), 17 NMI (in), 18 PC4/SCK/Ain (io), 19 PC3/Sout/Ain (io), 20 PC2/Sin/Ain (io)

## ST62T53CB3
designator U?
8-Bit OTP MCU with A/D Converter, Safe Reset, Auto-Reload Timer, EEPROM and SPI, 20-Pin PDIP, Automotive; Note: Pins 1, 2, 4 and 5 can also sink 30mA for direct LED or TRIAC drive.; Published: 26-May-2004; DatasheetDocument: rev2.8, Jul-2001; PackageDocument: Jul-2003; PackageReference: PDIP20; Publisher: Altium Limited; Code_JEDEC: MS-001-AD
footprint PDIP20 (DIP; 20 Leads; Row Spacing 7.62 mm; Pitch 2.54 mm)
pins: 1 PB0 (io), 2 PB1 (io), 3 TEST/VPP (in), 4 PB2 (io), 5 PB3 (io), 6 PB6/ARTIMin (io), 7 PB7/ARTIMout (io), 8 PA0/Ain (io), 9 VDD (power), 10 VSS (power), 11 PA1/Ain (io), 12 PA2/Ain (io), 13 PA3/Ain (io), 14 OSCin (in), 15 OSCout (out), 16 ~{RESET} (in), 17 NMI (in), 18 PC4/SCK/Ain (io), 19 PC3/Sout/Ain (io), 20 PC2/Sin/Ain (io)

## ST62T53CB6
designator U?
8-Bit OTP MCU with A/D Converter, Safe Reset, Auto-Reload Timer, EEPROM and SPI, 20-Pin PDIP, Industrial; Note: Pins 1, 2, 4 and 5 can also sink 30mA for direct LED or TRIAC drive.; Published: 26-May-2004; DatasheetDocument: rev2.8, Jul-2001; PackageDocument: Jul-2003; PackageReference: PDIP20; Publisher: Altium Limited; Code_JEDEC: MS-001-AD
footprint PDIP20 (DIP; 20 Leads; Row Spacing 7.62 mm; Pitch 2.54 mm)
pins: 1 PB0 (io), 2 PB1 (io), 3 TEST/VPP (in), 4 PB2 (io), 5 PB3 (io), 6 PB6/ARTIMin (io), 7 PB7/ARTIMout (io), 8 PA0/Ain (io), 9 VDD (power), 10 VSS (power), 11 PA1/Ain (io), 12 PA2/Ain (io), 13 PA3/Ain (io), 14 OSCin (in), 15 OSCout (out), 16 ~{RESET} (in), 17 NMI (in), 18 PC4/SCK/Ain (io), 19 PC3/Sout/Ain (io), 20 PC2/Sin/Ain (io)

## ST62T53CM3
designator U?
8-Bit OTP MCU with A/D Converter, Safe Reset, Auto-Reload Timer, EEPROM and SPI, 20-Pin SOIC, Automotive; Note: Pins 1, 2, 4 and 5 can also sink 30mA for direct LED or TRIAC drive.; Published: 26-May-2004; DatasheetDocument: rev2.8, Jul-2001; PackageDocument: Jul-2001; PackageReference: SO20; Publisher: Altium Limited; Code_JEDEC: MS-013-AC; Code_IPC: SO20W
footprint SO20 (Small Outline, Plastic; 20 Leads; Body Width 7.5 mm; Pitch 1.27 mm)
pins: 1 PB0 (io), 2 PB1 (io), 3 TEST/VPP (in), 4 PB2 (io), 5 PB3 (io), 6 PB6/ARTIMin (io), 7 PB7/ARTIMout (io), 8 PA0/Ain (io), 9 VDD (power), 10 VSS (power), 11 PA1/Ain (io), 12 PA2/Ain (io), 13 PA3/Ain (io), 14 OSCin (in), 15 OSCout (out), 16 ~{RESET} (in), 17 NMI (in), 18 PC4/SCK/Ain (io), 19 PC3/Sout/Ain (io), 20 PC2/Sin/Ain (io)

## ST62T53CM6
designator U?
8-Bit OTP MCU with A/D Converter, Safe Reset, Auto-Reload Timer, EEPROM and SPI, 20-Pin SOIC, Industrial; Note: Pins 1, 2, 4 and 5 can also sink 30mA for direct LED or TRIAC drive.; Published: 26-May-2004; DatasheetDocument: rev2.8, Jul-2001; PackageDocument: Jul-2001; PackageReference: SO20; Publisher: Altium Limited; Code_JEDEC: MS-013-AC; Code_IPC: SO20W
footprint SO20 (Small Outline, Plastic; 20 Leads; Body Width 7.5 mm; Pitch 1.27 mm)
pins: 1 PB0 (io), 2 PB1 (io), 3 TEST/VPP (in), 4 PB2 (io), 5 PB3 (io), 6 PB6/ARTIMin (io), 7 PB7/ARTIMout (io), 8 PA0/Ain (io), 9 VDD (power), 10 VSS (power), 11 PA1/Ain (io), 12 PA2/Ain (io), 13 PA3/Ain (io), 14 OSCin (in), 15 OSCout (out), 16 ~{RESET} (in), 17 NMI (in), 18 PC4/SCK/Ain (io), 19 PC3/Sout/Ain (io), 20 PC2/Sin/Ain (io)

## ST62T55CB3
designator U?
8-Bit OTP MCU with A/D Converter, Safe Reset, Auto-Reload Timer, EEPROM and SPI, 28-Pin PDIP, Automotive; Note: Pins 1, 2 and 4-7 can also sink 30mA for direct LED or TRIAC drive.; Published: 26-May-2004; DatasheetDocument: rev2.9, Jul-2001; PackageDocument: Oct-2003; PackageReference: DIP28; Publisher: Altium Limited; Code_JEDEC: MS-011-AB
footprint DIP28 (DIP; 28 Leads; Row Spacing 15.24 mm; Pitch 2.54 mm)
pins: 1 PB0 (io), 2 PB1 (io), 3 TEST/VPP (in), 4 PB2 (io), 5 PB3 (io), 6 PB4 (io), 7 PB5 (io), 8 PB6/ARTIMin (io), 9 PB7/ARTIMout (io), 10 PA0/Ain (io), 11 VDD (power), 12 VSS (power), 13 PA1/Ain (io), 14 PA2/Ain (io), 15 PA3/Ain (io), 16 PA4/Ain (io), 17 PA5/Ain (io), 18 PA6/Ain (io), 19 PA7/Ain (io), 20 OSCin (in), 21 OSCout (out), 22 ~{RESET} (in), 23 NMI (in), 24 PC4/SCK/Ain (io), 25 PC3/Sout/Ain (io), 26 PC2/Sin/Ain (io), 27 PC1/TIM1/Ain (io), 28 PC0/Ain (io)

## ST62T55CB6
designator U?
8-Bit OTP MCU with A/D Converter, Safe Reset, Auto-Reload Timer, EEPROM and SPI, 28-Pin PDIP, Industrial; Note: Pins 1, 2 and 4-7 can also sink 30mA for direct LED or TRIAC drive.; Published: 26-May-2004; DatasheetDocument: rev2.9, Jul-2001; PackageDocument: Oct-2003; PackageReference: DIP28; Publisher: Altium Limited; Code_JEDEC: MS-011-AB
footprint DIP28 (DIP; 28 Leads; Row Spacing 15.24 mm; Pitch 2.54 mm)
pins: 1 PB0 (io), 2 PB1 (io), 3 TEST/VPP (in), 4 PB2 (io), 5 PB3 (io), 6 PB4 (io), 7 PB5 (io), 8 PB6/ARTIMin (io), 9 PB7/ARTIMout (io), 10 PA0/Ain (io), 11 VDD (power), 12 VSS (power), 13 PA1/Ain (io), 14 PA2/Ain (io), 15 PA3/Ain (io), 16 PA4/Ain (io), 17 PA5/Ain (io), 18 PA6/Ain (io), 19 PA7/Ain (io), 20 OSCin (in), 21 OSCout (out), 22 ~{RESET} (in), 23 NMI (in), 24 PC4/SCK/Ain (io), 25 PC3/Sout/Ain (io), 26 PC2/Sin/Ain (io), 27 PC1/TIM1/Ain (io), 28 PC0/Ain (io)

## ST62T55CM3
designator U?
8-Bit OTP MCU with A/D Converter, Safe Reset, Auto-Reload Timer, EEPROM and SPI, 28-Pin SOIC, Automotive; Note: Pins 1, 2 and 4-7 can also sink 30mA for direct LED or TRIAC drive.; Published: 26-May-2004; DatasheetDocument: rev2.9, Jul-2001; PackageDocument: Jul-2001; PackageReference: SO28; Publisher: Altium Limited; Code_IPC: SO28W
footprint SO28 (Small Outline, Plastic; 28 Leads; Body Width 7.5 mm; Pitch 1.27 mm)
pins: 1 PB0 (io), 2 PB1 (io), 3 TEST/VPP (in), 4 PB2 (io), 5 PB3 (io), 6 PB4 (io), 7 PB5 (io), 8 PB6/ARTIMin (io), 9 PB7/ARTIMout (io), 10 PA0/Ain (io), 11 VDD (power), 12 VSS (power), 13 PA1/Ain (io), 14 PA2/Ain (io), 15 PA3/Ain (io), 16 PA4/Ain (io), 17 PA5/Ain (io), 18 PA6/Ain (io), 19 PA7/Ain (io), 20 OSCin (in), 21 OSCout (out), 22 ~{RESET} (in), 23 NMI (in), 24 PC4/SCK/Ain (io), 25 PC3/Sout/Ain (io), 26 PC2/Sin/Ain (io), 27 PC1/TIM1/Ain (io), 28 PC0/Ain (io)

## ST62T55CM6
designator U?
8-Bit OTP MCU with A/D Converter, Safe Reset, Auto-Reload Timer, EEPROM and SPI, 28-Pin SOIC, Industrial; Note: Pins 1, 2 and 4-7 can also sink 30mA for direct LED or TRIAC drive.; Published: 26-May-2004; DatasheetDocument: rev2.9, Jul-2001; PackageDocument: Jul-2001; PackageReference: SO28; Publisher: Altium Limited; Code_IPC: SO28W
footprint SO28 (Small Outline, Plastic; 28 Leads; Body Width 7.5 mm; Pitch 1.27 mm)
pins: 1 PB0 (io), 2 PB1 (io), 3 TEST/VPP (in), 4 PB2 (io), 5 PB3 (io), 6 PB4 (io), 7 PB5 (io), 8 PB6/ARTIMin (io), 9 PB7/ARTIMout (io), 10 PA0/Ain (io), 11 VDD (power), 12 VSS (power), 13 PA1/Ain (io), 14 PA2/Ain (io), 15 PA3/Ain (io), 16 PA4/Ain (io), 17 PA5/Ain (io), 18 PA6/Ain (io), 19 PA7/Ain (io), 20 OSCin (in), 21 OSCout (out), 22 ~{RESET} (in), 23 NMI (in), 24 PC4/SCK/Ain (io), 25 PC3/Sout/Ain (io), 26 PC2/Sin/Ain (io), 27 PC1/TIM1/Ain (io), 28 PC0/Ain (io)

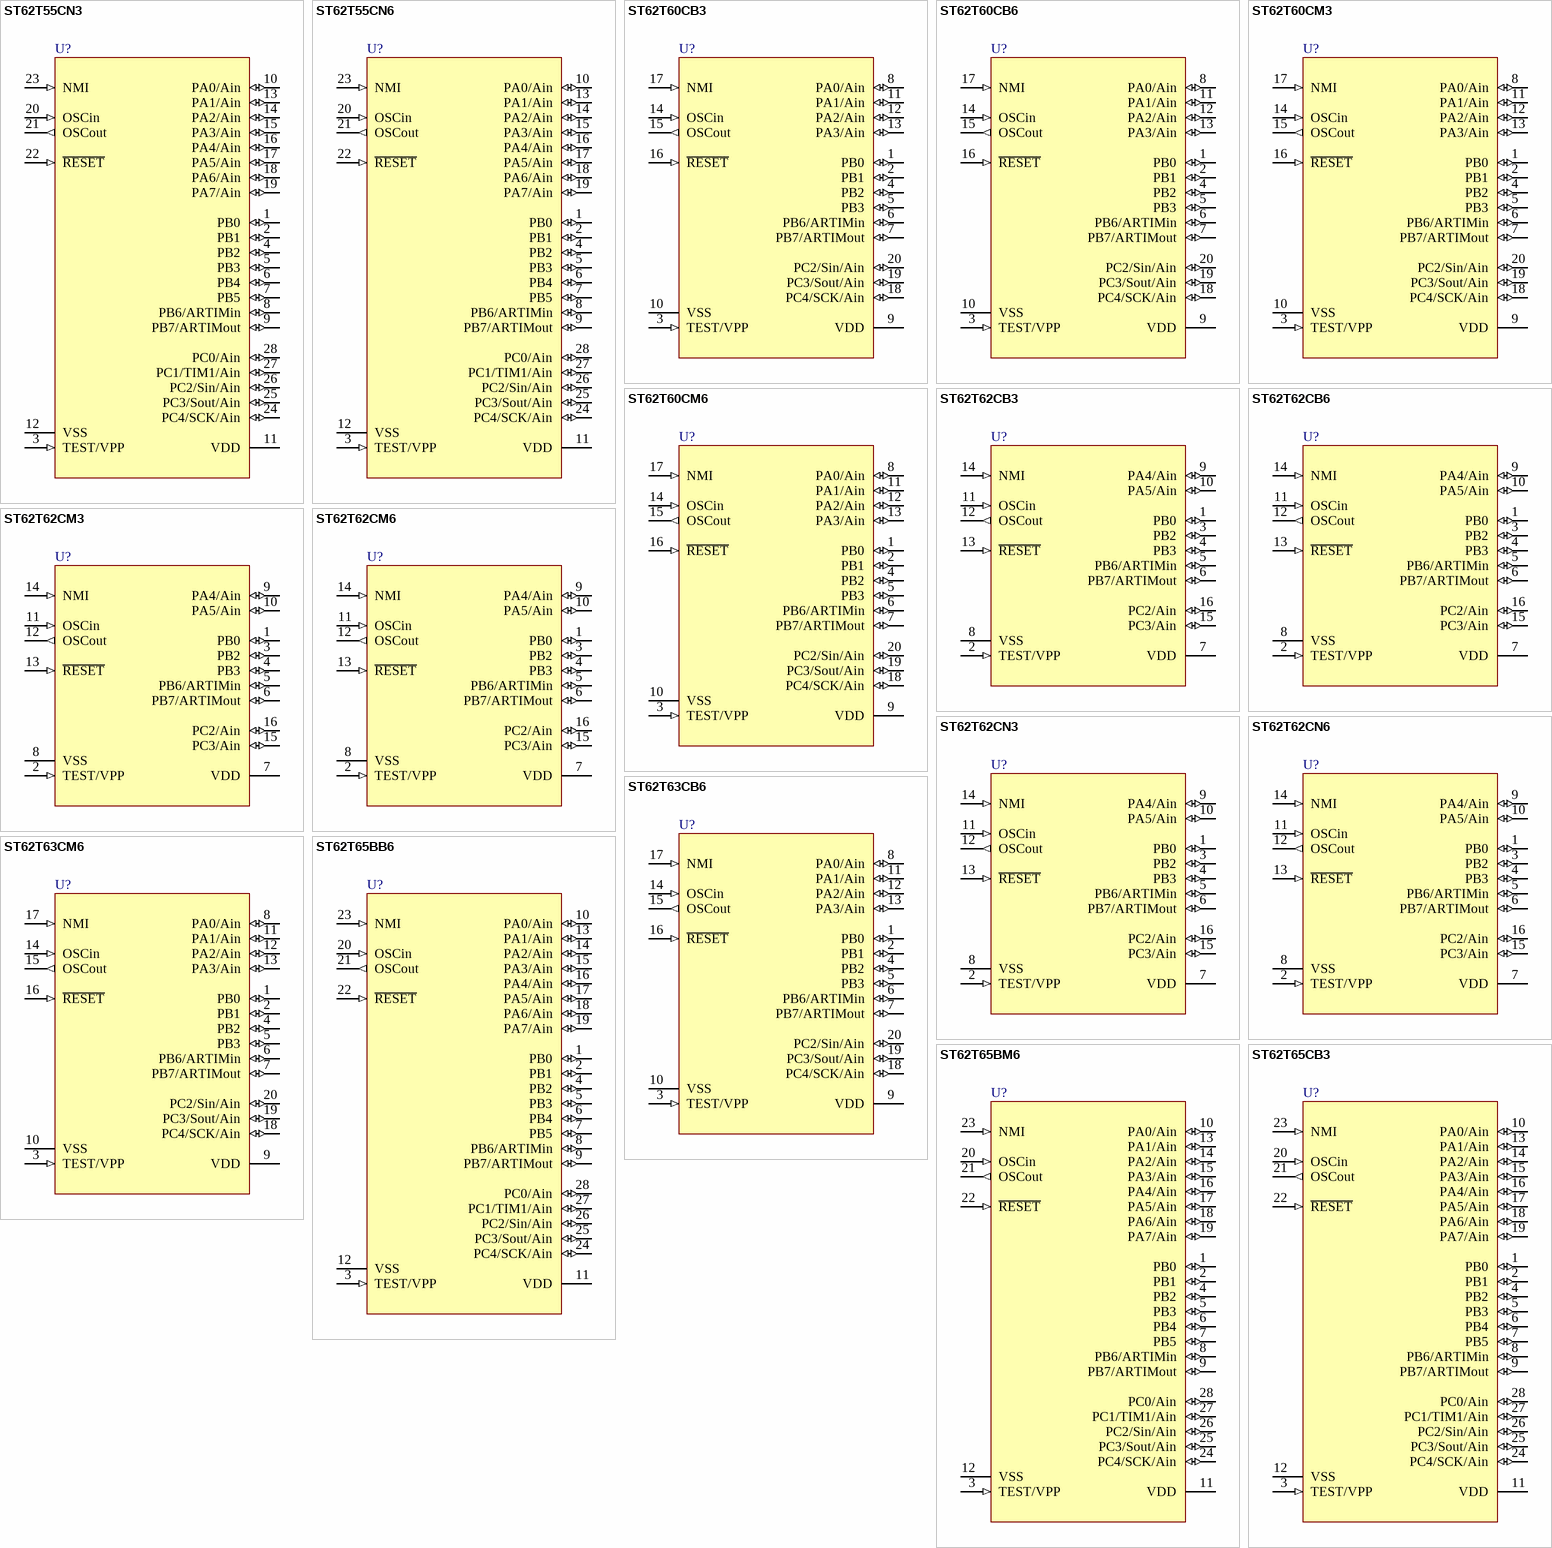
[diagram p19: symbols ST62T55CN3 to ST62T65CB3]

## ST62T55CN3
designator U?
8-Bit OTP MCU with A/D Converter, Safe Reset, Auto-Reload Timer, EEPROM and SPI, 28-Pin SSOP, Automotive; Note: Pins 1, 2 and 4-7 can also sink 30mA for direct LED or TRIAC drive.; Published: 26-May-2004; DatasheetDocument: rev2.9, Jul-2001; PackageDocument: Jul-2001; PackageReference: SSOP28W; Publisher: Altium Limited
footprint SSOP28W (SSOP, Plastic; 28 Leads; Body Width 5.3 mm; Pitch 0.65 mm)
pins: 1 PB0 (io), 2 PB1 (io), 3 TEST/VPP (in), 4 PB2 (io), 5 PB3 (io), 6 PB4 (io), 7 PB5 (io), 8 PB6/ARTIMin (io), 9 PB7/ARTIMout (io), 10 PA0/Ain (io), 11 VDD (power), 12 VSS (power), 13 PA1/Ain (io), 14 PA2/Ain (io), 15 PA3/Ain (io), 16 PA4/Ain (io), 17 PA5/Ain (io), 18 PA6/Ain (io), 19 PA7/Ain (io), 20 OSCin (in), 21 OSCout (out), 22 ~{RESET} (in), 23 NMI (in), 24 PC4/SCK/Ain (io), 25 PC3/Sout/Ain (io), 26 PC2/Sin/Ain (io), 27 PC1/TIM1/Ain (io), 28 PC0/Ain (io)

## ST62T55CN6
designator U?
8-Bit OTP MCU with A/D Converter, Safe Reset, Auto-Reload Timer, EEPROM and SPI, 28-Pin SSOP, Industrial; Note: Pins 1, 2 and 4-7 can also sink 30mA for direct LED or TRIAC drive.; Published: 26-May-2004; DatasheetDocument: rev2.9, Jul-2001; PackageDocument: Jul-2001; PackageReference: SSOP28W; Publisher: Altium Limited
footprint SSOP28W (SSOP, Plastic; 28 Leads; Body Width 5.3 mm; Pitch 0.65 mm)
pins: 1 PB0 (io), 2 PB1 (io), 3 TEST/VPP (in), 4 PB2 (io), 5 PB3 (io), 6 PB4 (io), 7 PB5 (io), 8 PB6/ARTIMin (io), 9 PB7/ARTIMout (io), 10 PA0/Ain (io), 11 VDD (power), 12 VSS (power), 13 PA1/Ain (io), 14 PA2/Ain (io), 15 PA3/Ain (io), 16 PA4/Ain (io), 17 PA5/Ain (io), 18 PA6/Ain (io), 19 PA7/Ain (io), 20 OSCin (in), 21 OSCout (out), 22 ~{RESET} (in), 23 NMI (in), 24 PC4/SCK/Ain (io), 25 PC3/Sout/Ain (io), 26 PC2/Sin/Ain (io), 27 PC1/TIM1/Ain (io), 28 PC0/Ain (io)

## ST62T60CB3
designator U?
8-Bit OTP MCU with A/D Converter, Safe Reset, Auto-Reload Timer, EEPROM and SPI, 20-Pin PDIP, Automotive; Note: Pins 1, 2, 4 and 5 can also sink 30mA for direct LED or TRIAC drive.; Published: 26-May-2004; DatasheetDocument: rev2.8, Jul-2001; PackageDocument: Jul-2003; PackageReference: PDIP20; Publisher: Altium Limited; Code_JEDEC: MS-001-AD
footprint PDIP20 (DIP; 20 Leads; Row Spacing 7.62 mm; Pitch 2.54 mm)
pins: 1 PB0 (io), 2 PB1 (io), 3 TEST/VPP (in), 4 PB2 (io), 5 PB3 (io), 6 PB6/ARTIMin (io), 7 PB7/ARTIMout (io), 8 PA0/Ain (io), 9 VDD (power), 10 VSS (power), 11 PA1/Ain (io), 12 PA2/Ain (io), 13 PA3/Ain (io), 14 OSCin (in), 15 OSCout (out), 16 ~{RESET} (in), 17 NMI (in), 18 PC4/SCK/Ain (io), 19 PC3/Sout/Ain (io), 20 PC2/Sin/Ain (io)

## ST62T60CB6
designator U?
8-Bit OTP MCU with A/D Converter, Safe Reset, Auto-Reload Timer, EEPROM and SPI, 20-Pin PDIP, Industrial; Note: Pins 1, 2, 4 and 5 can also sink 30mA for direct LED or TRIAC drive.; Published: 26-May-2004; DatasheetDocument: rev2.8, Jul-2001; PackageDocument: Jul-2003; PackageReference: PDIP20; Publisher: Altium Limited; Code_JEDEC: MS-001-AD
footprint PDIP20 (DIP; 20 Leads; Row Spacing 7.62 mm; Pitch 2.54 mm)
pins: 1 PB0 (io), 2 PB1 (io), 3 TEST/VPP (in), 4 PB2 (io), 5 PB3 (io), 6 PB6/ARTIMin (io), 7 PB7/ARTIMout (io), 8 PA0/Ain (io), 9 VDD (power), 10 VSS (power), 11 PA1/Ain (io), 12 PA2/Ain (io), 13 PA3/Ain (io), 14 OSCin (in), 15 OSCout (out), 16 ~{RESET} (in), 17 NMI (in), 18 PC4/SCK/Ain (io), 19 PC3/Sout/Ain (io), 20 PC2/Sin/Ain (io)

## ST62T60CM3
designator U?
8-Bit OTP MCU with A/D Converter, Safe Reset, Auto-Reload Timer, EEPROM and SPI, 20-Pin SOIC, Automotive; Note: Pins 1, 2, 4 and 5 can also sink 30mA for direct LED or TRIAC drive.; Published: 26-May-2004; DatasheetDocument: rev2.8, Jul-2001; PackageDocument: Jul-2001; PackageReference: SO20; Publisher: Altium Limited; Code_JEDEC: MS-013-AC; Code_IPC: SO20W
footprint SO20 (Small Outline, Plastic; 20 Leads; Body Width 7.5 mm; Pitch 1.27 mm)
pins: 1 PB0 (io), 2 PB1 (io), 3 TEST/VPP (in), 4 PB2 (io), 5 PB3 (io), 6 PB6/ARTIMin (io), 7 PB7/ARTIMout (io), 8 PA0/Ain (io), 9 VDD (power), 10 VSS (power), 11 PA1/Ain (io), 12 PA2/Ain (io), 13 PA3/Ain (io), 14 OSCin (in), 15 OSCout (out), 16 ~{RESET} (in), 17 NMI (in), 18 PC4/SCK/Ain (io), 19 PC3/Sout/Ain (io), 20 PC2/Sin/Ain (io)

## ST62T60CM6
designator U?
8-Bit OTP MCU with A/D Converter, Safe Reset, Auto-Reload Timer, EEPROM and SPI, 20-Pin SOIC, Industrial; Note: Pins 1, 2, 4 and 5 can also sink 30mA for direct LED or TRIAC drive.; Published: 26-May-2004; DatasheetDocument: rev2.8, Jul-2001; PackageDocument: Jul-2001; PackageReference: SO20; Publisher: Altium Limited; Code_JEDEC: MS-013-AC; Code_IPC: SO20W
footprint SO20 (Small Outline, Plastic; 20 Leads; Body Width 7.5 mm; Pitch 1.27 mm)
pins: 1 PB0 (io), 2 PB1 (io), 3 TEST/VPP (in), 4 PB2 (io), 5 PB3 (io), 6 PB6/ARTIMin (io), 7 PB7/ARTIMout (io), 8 PA0/Ain (io), 9 VDD (power), 10 VSS (power), 11 PA1/Ain (io), 12 PA2/Ain (io), 13 PA3/Ain (io), 14 OSCin (in), 15 OSCout (out), 16 ~{RESET} (in), 17 NMI (in), 18 PC4/SCK/Ain (io), 19 PC3/Sout/Ain (io), 20 PC2/Sin/Ain (io)

## ST62T62CB3
designator U?
8-Bit OTP MCU with A/D Converter, Safe Reset, Auto-Reload Timer and EEPROM, 16-Pin PDIP, Automotive; Note: Pins 3 to 5 can also sink 20mA for direct LED or TRIAC drive.; Published: 26-May-2004; DatasheetDocument: rev3.0, Feb-2002; PackageDocument: Dec-2003; PackageReference: PDIP16; Publisher: Altium Limited
footprint PDIP16 (DIP; 16 Leads; Row Spacing 7.62 mm; Pitch 2.54 mm)
pins: 1 PB0 (io), 2 TEST/VPP (in), 3 PB2 (io), 4 PB3 (io), 5 PB6/ARTIMin (io), 6 PB7/ARTIMout (io), 7 VDD (power), 8 VSS (power), 9 PA4/Ain (io), 10 PA5/Ain (io), 11 OSCin (in), 12 OSCout (out), 13 ~{RESET} (in), 14 NMI (in), 15 PC3/Ain (io), 16 PC2/Ain (io)

## ST62T62CB6
designator U?
8-Bit OTP MCU with A/D Converter, Safe Reset, Auto-Reload Timer and EEPROM, 16-Pin PDIP, Industrial; Note: Pins 3 to 5 can also sink 20mA for direct LED or TRIAC drive.; Published: 26-May-2004; DatasheetDocument: rev3.0, Feb-2002; PackageDocument: Dec-2003; PackageReference: PDIP16; Publisher: Altium Limited
footprint PDIP16 (DIP; 16 Leads; Row Spacing 7.62 mm; Pitch 2.54 mm)
pins: 1 PB0 (io), 2 TEST/VPP (in), 3 PB2 (io), 4 PB3 (io), 5 PB6/ARTIMin (io), 6 PB7/ARTIMout (io), 7 VDD (power), 8 VSS (power), 9 PA4/Ain (io), 10 PA5/Ain (io), 11 OSCin (in), 12 OSCout (out), 13 ~{RESET} (in), 14 NMI (in), 15 PC3/Ain (io), 16 PC2/Ain (io)

## ST62T62CM3
designator U?
8-Bit OTP MCU with A/D Converter, Safe Reset, Auto-Reload Timer and EEPROM, 16-Pin SOIC, Automotive; Note: Pins 3 to 5 can also sink 20mA for direct LED or TRIAC drive.; Published: 26-May-2004; DatasheetDocument: rev3.0, Feb-2002; PackageDocument: Apr-1998; PackageReference: SO16W; Publisher: Altium Limited; Code_JEDEC: MS-013-AA; Code_IPC: SO16W
footprint SO16W (Small Outline; 16 Leads; Body Width 7.5 mm; Pitch 1.27 mm)
pins: 1 PB0 (io), 2 TEST/VPP (in), 3 PB2 (io), 4 PB3 (io), 5 PB6/ARTIMin (io), 6 PB7/ARTIMout (io), 7 VDD (power), 8 VSS (power), 9 PA4/Ain (io), 10 PA5/Ain (io), 11 OSCin (in), 12 OSCout (out), 13 ~{RESET} (in), 14 NMI (in), 15 PC3/Ain (io), 16 PC2/Ain (io)

## ST62T62CM6
designator U?
8-Bit OTP MCU with A/D Converter, Safe Reset, Auto-Reload Timer and EEPROM, 16-Pin SOIC, Industrial; Note: Pins 3 to 5 can also sink 20mA for direct LED or TRIAC drive.; Published: 26-May-2004; DatasheetDocument: rev3.0, Feb-2002; PackageDocument: Apr-1998; PackageReference: SO16W; Publisher: Altium Limited; Code_JEDEC: MS-013-AA; Code_IPC: SO16W
footprint SO16W (Small Outline; 16 Leads; Body Width 7.5 mm; Pitch 1.27 mm)
pins: 1 PB0 (io), 2 TEST/VPP (in), 3 PB2 (io), 4 PB3 (io), 5 PB6/ARTIMin (io), 6 PB7/ARTIMout (io), 7 VDD (power), 8 VSS (power), 9 PA4/Ain (io), 10 PA5/Ain (io), 11 OSCin (in), 12 OSCout (out), 13 ~{RESET} (in), 14 NMI (in), 15 PC3/Ain (io), 16 PC2/Ain (io)

## ST62T62CN3
designator U?
8-Bit OTP MCU with A/D Converter, Safe Reset, Auto-Reload Timer and EEPROM, 16-Pin SSOP, Automotive; Note: Pins 3 to 5 can also sink 20mA for direct LED or TRIAC drive.; Published: 26-May-2004; DatasheetDocument: rev3.0, Feb-2002; PackageDocument: Oct-2003; PackageReference: SSOP16; Publisher: Altium Limited
footprint SSOP16 (SSOP, Plastic; 16 Leads; Body Width 5.3 mm; Pitch 0.65 mm)
pins: 1 PB0 (io), 2 TEST/VPP (in), 3 PB2 (io), 4 PB3 (io), 5 PB6/ARTIMin (io), 6 PB7/ARTIMout (io), 7 VDD (power), 8 VSS (power), 9 PA4/Ain (io), 10 PA5/Ain (io), 11 OSCin (in), 12 OSCout (out), 13 ~{RESET} (in), 14 NMI (in), 15 PC3/Ain (io), 16 PC2/Ain (io)

## ST62T62CN6
designator U?
8-Bit OTP MCU with A/D Converter, Safe Reset, Auto-Reload Timer and EEPROM, 16-Pin SSOP, Industrial; Note: Pins 3 to 5 can also sink 20mA for direct LED or TRIAC drive.; Published: 26-May-2004; DatasheetDocument: rev3.0, Feb-2002; PackageDocument: Oct-2003; PackageReference: SSOP16; Publisher: Altium Limited
footprint SSOP16 (SSOP, Plastic; 16 Leads; Body Width 5.3 mm; Pitch 0.65 mm)
pins: 1 PB0 (io), 2 TEST/VPP (in), 3 PB2 (io), 4 PB3 (io), 5 PB6/ARTIMin (io), 6 PB7/ARTIMout (io), 7 VDD (power), 8 VSS (power), 9 PA4/Ain (io), 10 PA5/Ain (io), 11 OSCin (in), 12 OSCout (out), 13 ~{RESET} (in), 14 NMI (in), 15 PC3/Ain (io), 16 PC2/Ain (io)

## ST62T63CB6
designator U?
8-Bit OTP MCU with A/D Converter, Safe Reset, Auto-Reload Timer, EEPROM and SPI, 20-Pin PDIP, Industrial; Note: Pins 1, 2, 4 and 5 can also sink 30mA for direct LED or TRIAC drive.; Published: 26-May-2004; DatasheetDocument: rev2.8, Jul-2001; PackageDocument: Jul-2003; PackageReference: PDIP20; Publisher: Altium Limited; Code_JEDEC: MS-001-AD
footprint PDIP20 (DIP; 20 Leads; Row Spacing 7.62 mm; Pitch 2.54 mm)
pins: 1 PB0 (io), 2 PB1 (io), 3 TEST/VPP (in), 4 PB2 (io), 5 PB3 (io), 6 PB6/ARTIMin (io), 7 PB7/ARTIMout (io), 8 PA0/Ain (io), 9 VDD (power), 10 VSS (power), 11 PA1/Ain (io), 12 PA2/Ain (io), 13 PA3/Ain (io), 14 OSCin (in), 15 OSCout (out), 16 ~{RESET} (in), 17 NMI (in), 18 PC4/SCK/Ain (io), 19 PC3/Sout/Ain (io), 20 PC2/Sin/Ain (io)

## ST62T63CM6
designator U?
8-Bit OTP MCU with A/D Converter, Safe Reset, Auto-Reload Timer, EEPROM and SPI, 20-Pin SOIC, Industrial; Note: Pins 1, 2, 4 and 5 can also sink 30mA for direct LED or TRIAC drive.; Published: 26-May-2004; DatasheetDocument: rev2.8, Jul-2001; PackageDocument: Jul-2001; PackageReference: SO20; Publisher: Altium Limited; Code_JEDEC: MS-013-AC; Code_IPC: SO20W
footprint SO20 (Small Outline, Plastic; 20 Leads; Body Width 7.5 mm; Pitch 1.27 mm)
pins: 1 PB0 (io), 2 PB1 (io), 3 TEST/VPP (in), 4 PB2 (io), 5 PB3 (io), 6 PB6/ARTIMin (io), 7 PB7/ARTIMout (io), 8 PA0/Ain (io), 9 VDD (power), 10 VSS (power), 11 PA1/Ain (io), 12 PA2/Ain (io), 13 PA3/Ain (io), 14 OSCin (in), 15 OSCout (out), 16 ~{RESET} (in), 17 NMI (in), 18 PC4/SCK/Ain (io), 19 PC3/Sout/Ain (io), 20 PC2/Sin/Ain (io)

## ST62T65BB6
designator U?
8-Bit OTP HCMOS MCU with A/D CONVERTER, Auto-Reload Timer, EEPROM and SPI; Published: 24-Aug-2001; LatestRevisionDate: 17-Jul-2002; LatestRevisionNote: Re-released for DXP Platform.; DatasheetDocument: Mar-1998; PackageDocument: Jan-2003; PackageReference: PDIP28; Publisher: Altium Limited
footprint PDIP28 (DIP; 28 Leads; Row Spacing 15.24 mm; Pitch 2.54 mm)
pins: 1 PB0 (io), 2 PB1 (io), 3 TEST/VPP (in), 4 PB2 (io), 5 PB3 (io), 6 PB4 (io), 7 PB5 (io), 8 PB6/ARTIMin (io), 9 PB7/ARTIMout (io), 10 PA0/Ain (io), 11 VDD (power), 12 VSS (power), 13 PA1/Ain (io), 14 PA2/Ain (io), 15 PA3/Ain (io), 16 PA4/Ain (io), 17 PA5/Ain (io), 18 PA6/Ain (io), 19 PA7/Ain (io), 20 OSCin (in), 21 OSCout (out), 22 ~{RESET} (in), 23 NMI (in), 24 PC4/SCK/Ain (io), 25 PC3/Sout/Ain (io), 26 PC2/Sin/Ain (io), 27 PC1/TIM1/Ain (io), 28 PC0/Ain (io)

## ST62T65BM6
designator U?
8-Bit OTP HCMOS MCU with A/D CONVERTER, Auto-Reload Timer, EEPROM and SPI; Published: 24-Aug-2001; LatestRevisionDate: 17-Jul-2002; LatestRevisionNote: Re-released for DXP Platform.; DatasheetDocument: Mar-1998; PackageDocument: Jul-2001; PackageReference: SO28; Publisher: Altium Limited; Code_IPC: SO28W
footprint SO28 (Small Outline, Plastic; 28 Leads; Body Width 7.5 mm; Pitch 1.27 mm)
pins: 1 PB0 (io), 2 PB1 (io), 3 TEST/VPP (in), 4 PB2 (io), 5 PB3 (io), 6 PB4 (io), 7 PB5 (io), 8 PB6/ARTIMin (io), 9 PB7/ARTIMout (io), 10 PA0/Ain (io), 11 VDD (power), 12 VSS (power), 13 PA1/Ain (io), 14 PA2/Ain (io), 15 PA3/Ain (io), 16 PA4/Ain (io), 17 PA5/Ain (io), 18 PA6/Ain (io), 19 PA7/Ain (io), 20 OSCin (in), 21 OSCout (out), 22 ~{RESET} (in), 23 NMI (in), 24 PC4/SCK/Ain (io), 25 PC3/Sout/Ain (io), 26 PC2/Sin/Ain (io), 27 PC1/TIM1/Ain (io), 28 PC0/Ain (io)

## ST62T65CB3
designator U?
8-Bit OTP MCU with A/D Converter, Safe Reset, Auto-Reload Timer, EEPROM and SPI, 28-Pin PDIP, Automotive; Note: Pins 1, 2 and 4-7 can also sink 30mA for direct LED or TRIAC drive.; Published: 26-May-2004; DatasheetDocument: rev2.9, Jul-2001; PackageDocument: Oct-2003; PackageReference: DIP28; Publisher: Altium Limited; Code_JEDEC: MS-011-AB
footprint DIP28 (DIP; 28 Leads; Row Spacing 15.24 mm; Pitch 2.54 mm)
pins: 1 PB0 (io), 2 PB1 (io), 3 TEST/VPP (in), 4 PB2 (io), 5 PB3 (io), 6 PB4 (io), 7 PB5 (io), 8 PB6/ARTIMin (io), 9 PB7/ARTIMout (io), 10 PA0/Ain (io), 11 VDD (power), 12 VSS (power), 13 PA1/Ain (io), 14 PA2/Ain (io), 15 PA3/Ain (io), 16 PA4/Ain (io), 17 PA5/Ain (io), 18 PA6/Ain (io), 19 PA7/Ain (io), 20 OSCin (in), 21 OSCout (out), 22 ~{RESET} (in), 23 NMI (in), 24 PC4/SCK/Ain (io), 25 PC3/Sout/Ain (io), 26 PC2/Sin/Ain (io), 27 PC1/TIM1/Ain (io), 28 PC0/Ain (io)

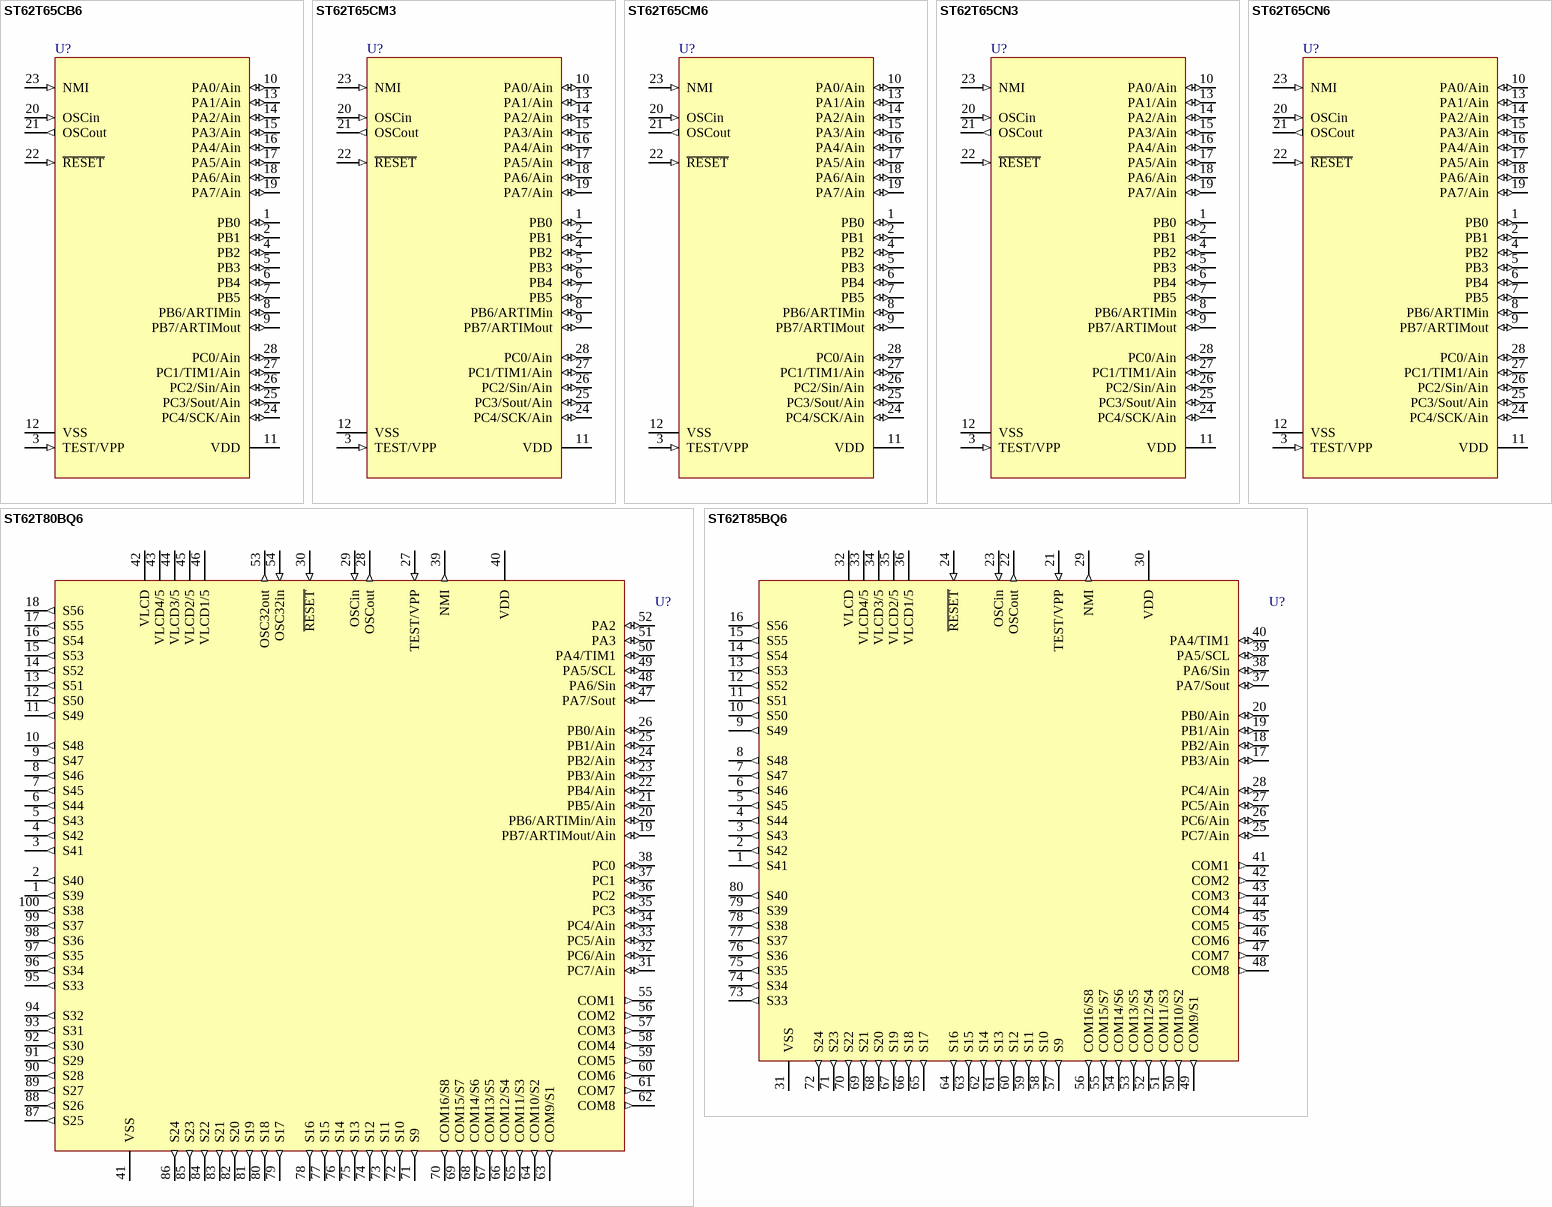
[diagram p20: symbols ST62T65CB6 to ST62T85BQ6]

## ST62T65CB6
designator U?
8-Bit OTP MCU with A/D Converter, Safe Reset, Auto-Reload Timer, EEPROM and SPI, 28-Pin PDIP, Industrial; Note: Pins 1, 2 and 4-7 can also sink 30mA for direct LED or TRIAC drive.; Published: 26-May-2004; DatasheetDocument: rev2.9, Jul-2001; PackageDocument: Oct-2003; PackageReference: DIP28; Publisher: Altium Limited; Code_JEDEC: MS-011-AB
footprint DIP28 (DIP; 28 Leads; Row Spacing 15.24 mm; Pitch 2.54 mm)
pins: 1 PB0 (io), 2 PB1 (io), 3 TEST/VPP (in), 4 PB2 (io), 5 PB3 (io), 6 PB4 (io), 7 PB5 (io), 8 PB6/ARTIMin (io), 9 PB7/ARTIMout (io), 10 PA0/Ain (io), 11 VDD (power), 12 VSS (power), 13 PA1/Ain (io), 14 PA2/Ain (io), 15 PA3/Ain (io), 16 PA4/Ain (io), 17 PA5/Ain (io), 18 PA6/Ain (io), 19 PA7/Ain (io), 20 OSCin (in), 21 OSCout (out), 22 ~{RESET} (in), 23 NMI (in), 24 PC4/SCK/Ain (io), 25 PC3/Sout/Ain (io), 26 PC2/Sin/Ain (io), 27 PC1/TIM1/Ain (io), 28 PC0/Ain (io)

## ST62T65CM3
designator U?
8-Bit OTP MCU with A/D Converter, Safe Reset, Auto-Reload Timer, EEPROM and SPI, 28-Pin SOIC, Automotive; Note: Pins 1, 2 and 4-7 can also sink 30mA for direct LED or TRIAC drive.; Published: 26-May-2004; DatasheetDocument: rev2.9, Jul-2001; PackageDocument: Jul-2001; PackageReference: SO28; Publisher: Altium Limited; Code_IPC: SO28W
footprint SO28 (Small Outline, Plastic; 28 Leads; Body Width 7.5 mm; Pitch 1.27 mm)
pins: 1 PB0 (io), 2 PB1 (io), 3 TEST/VPP (in), 4 PB2 (io), 5 PB3 (io), 6 PB4 (io), 7 PB5 (io), 8 PB6/ARTIMin (io), 9 PB7/ARTIMout (io), 10 PA0/Ain (io), 11 VDD (power), 12 VSS (power), 13 PA1/Ain (io), 14 PA2/Ain (io), 15 PA3/Ain (io), 16 PA4/Ain (io), 17 PA5/Ain (io), 18 PA6/Ain (io), 19 PA7/Ain (io), 20 OSCin (in), 21 OSCout (out), 22 ~{RESET} (in), 23 NMI (in), 24 PC4/SCK/Ain (io), 25 PC3/Sout/Ain (io), 26 PC2/Sin/Ain (io), 27 PC1/TIM1/Ain (io), 28 PC0/Ain (io)

## ST62T65CM6
designator U?
8-Bit OTP MCU with A/D Converter, Safe Reset, Auto-Reload Timer, EEPROM and SPI, 28-Pin SOIC, Industrial; Note: Pins 1, 2 and 4-7 can also sink 30mA for direct LED or TRIAC drive.; Published: 26-May-2004; DatasheetDocument: rev2.9, Jul-2001; PackageDocument: Jul-2001; PackageReference: SO28; Publisher: Altium Limited; Code_IPC: SO28W
footprint SO28 (Small Outline, Plastic; 28 Leads; Body Width 7.5 mm; Pitch 1.27 mm)
pins: 1 PB0 (io), 2 PB1 (io), 3 TEST/VPP (in), 4 PB2 (io), 5 PB3 (io), 6 PB4 (io), 7 PB5 (io), 8 PB6/ARTIMin (io), 9 PB7/ARTIMout (io), 10 PA0/Ain (io), 11 VDD (power), 12 VSS (power), 13 PA1/Ain (io), 14 PA2/Ain (io), 15 PA3/Ain (io), 16 PA4/Ain (io), 17 PA5/Ain (io), 18 PA6/Ain (io), 19 PA7/Ain (io), 20 OSCin (in), 21 OSCout (out), 22 ~{RESET} (in), 23 NMI (in), 24 PC4/SCK/Ain (io), 25 PC3/Sout/Ain (io), 26 PC2/Sin/Ain (io), 27 PC1/TIM1/Ain (io), 28 PC0/Ain (io)

## ST62T65CN3
designator U?
8-Bit OTP MCU with A/D Converter, Safe Reset, Auto-Reload Timer, EEPROM and SPI, 28-Pin SSOP, Automotive; Note: Pins 1, 2 and 4-7 can also sink 30mA for direct LED or TRIAC drive.; Published: 26-May-2004; DatasheetDocument: rev2.9, Jul-2001; PackageDocument: Jul-2001; PackageReference: SSOP28W; Publisher: Altium Limited
footprint SSOP28W (SSOP, Plastic; 28 Leads; Body Width 5.3 mm; Pitch 0.65 mm)
pins: 1 PB0 (io), 2 PB1 (io), 3 TEST/VPP (in), 4 PB2 (io), 5 PB3 (io), 6 PB4 (io), 7 PB5 (io), 8 PB6/ARTIMin (io), 9 PB7/ARTIMout (io), 10 PA0/Ain (io), 11 VDD (power), 12 VSS (power), 13 PA1/Ain (io), 14 PA2/Ain (io), 15 PA3/Ain (io), 16 PA4/Ain (io), 17 PA5/Ain (io), 18 PA6/Ain (io), 19 PA7/Ain (io), 20 OSCin (in), 21 OSCout (out), 22 ~{RESET} (in), 23 NMI (in), 24 PC4/SCK/Ain (io), 25 PC3/Sout/Ain (io), 26 PC2/Sin/Ain (io), 27 PC1/TIM1/Ain (io), 28 PC0/Ain (io)